# Altium integrated library Lattice FPGA XP.IntLib: 280 symbols (part 28 of 55)
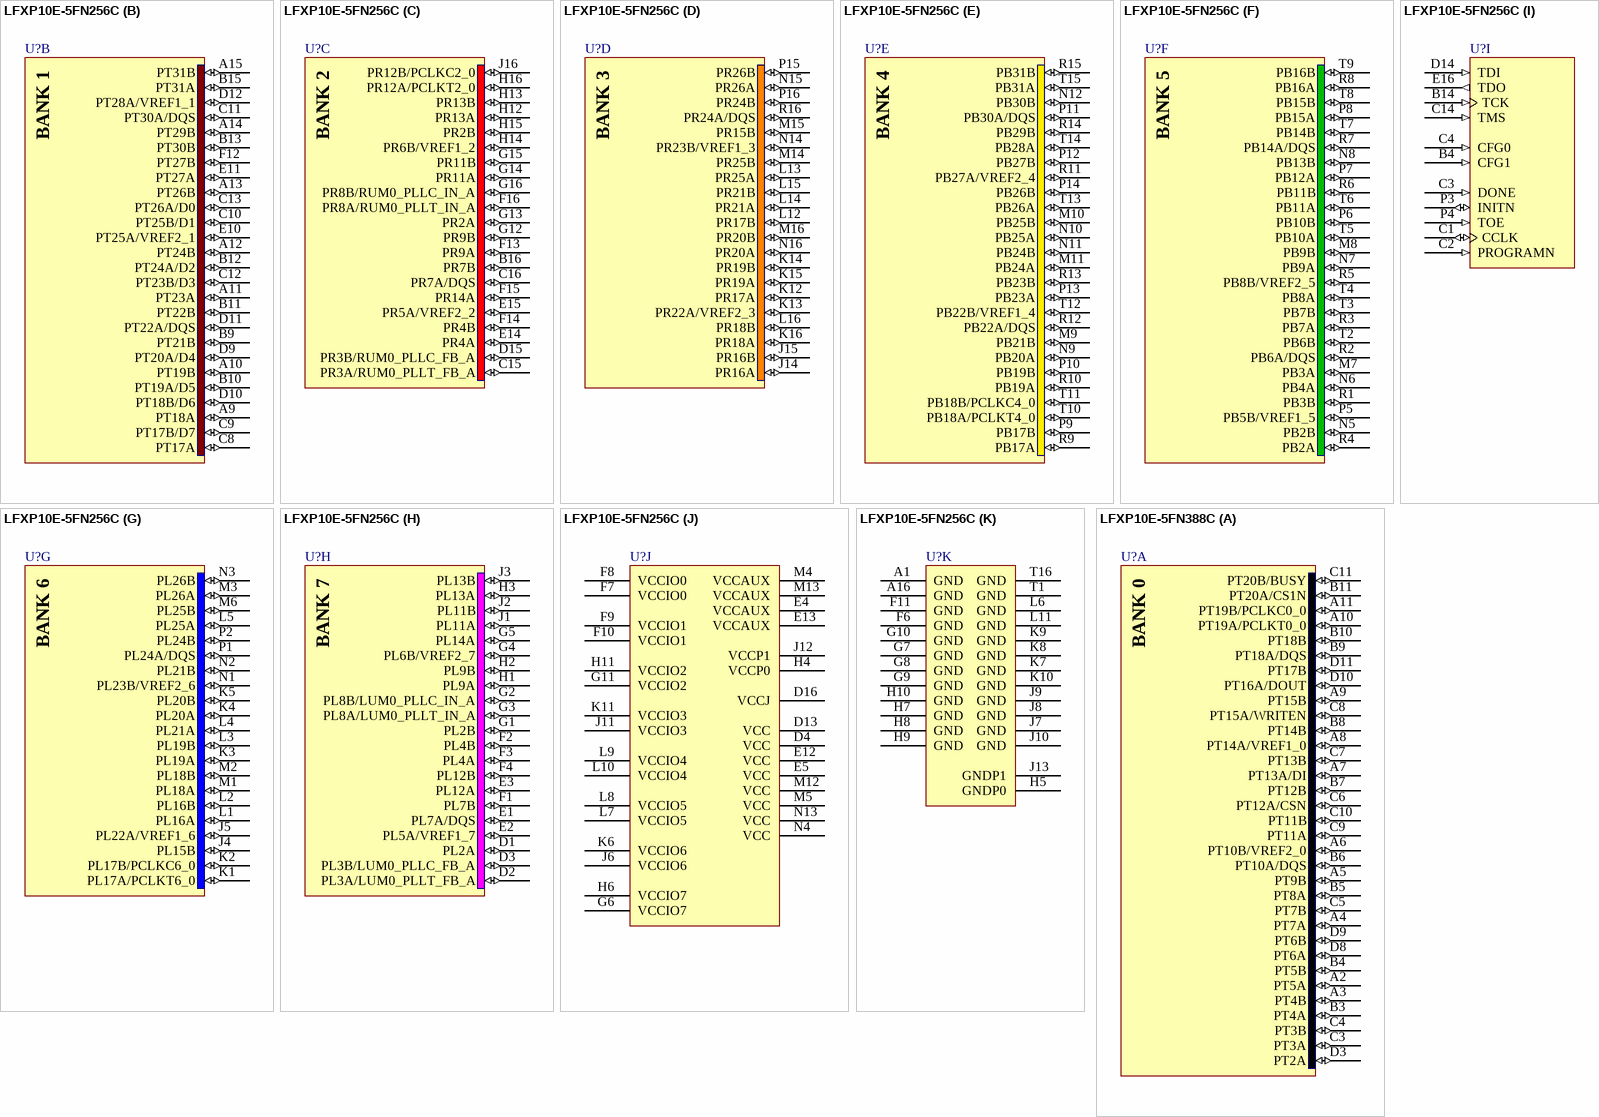
[diagram p266: symbols LFXP10E-5FN256C to LFXP10E-5FN388C]

## LFXP10E-5FN256C
designator U?
XP 1.2V FPGA, 188 I/Os, 10K LUTs, 256-Pin fpBGA, Speed Grade 5, Commerical Grade, Pb-Free; DatasheetVersion: ver05.1, Nov-2007; PackageVersion: ver01.8, Dec-2008; PackageReference: fpBGA256; PackageDescription: 256-Ball Fine Pitch Ball Grid Array (fpBGA256); Code_IPC: BGA100P16X16-256; ComponentLink1Description: Manufacturer URL; ComponentLink1URL: http://www.latticesemi.com/; ComponentLink2Description: Datasheet; ComponentLink2URL: http://www.latticesemi.com/lit/docs/datasheets/fpga/DS1001.pdf; ComponentLink3Description: Package Specification; ComponentLink3URL: http://www.latticesemi.com/lit/docs/package/pkg.pdf
footprint fpBGA256 (BGA, 256-Leads, Body 17x17mm, Pitch 1mm)
part A pins: A2 PT3B (io), A3 PT6A/DQS (io), A4 PT8B (io), A5 PT9B (io), A6 PT11B (io), A7 PT15A/PCLKT0_0 (io), A8 PT15B/PCLKC0_0 (io), B1 PT3A (io), B2 PT4A (io), B3 PT5B (io), B5 PT9A/DI (io), B6 PT8A/CSN (io), B7 PT14B (io), B8 PT16A/CS1N (io), C5 PT2A (io), C6 PT11A/WRITEN (io), C7 PT14A/DQS (io), D5 PT6B/VREF2_0 (io), D6 PT7A (io), D7 PT10A/VREF1_0 (io), D8 PT12A/DOUT (io), E6 PT7B (io), E7 PT10B (io), E8 PT13B (io), E9 PT16B/BUSY (io), F5 PT2B (io)
part B pins: A9 PT18A (io), A10 PT19B (io), A11 PT23A (io), A12 PT24B (io), A13 PT26B (io), A14 PT29B (io), A15 PT31B (io), B9 PT21B (io), B10 PT19A/D5 (io), B11 PT22B (io), B12 PT24A/D2 (io), B13 PT30B (io), B15 PT31A (io), C8 PT17A (io), C9 PT17B/D7 (io), C10 PT25B/D1 (io), C11 PT30A/DQS (io), C12 PT23B/D3 (io), C13 PT26A/D0 (io), D9 PT20A/D4 (io), D10 PT18B/D6 (io), D11 PT22A/DQS (io), D12 PT28A/VREF1_1 (io), E10 PT25A/VREF2_1 (io), E11 PT27A (io), F12 PT27B (io)
part C pins: B16 PR7B (io), C15 PR3A/RUM0_PLLT_FB_A (io), C16 PR7A/DQS (io), D15 PR3B/RUM0_PLLC_FB_A (io), E14 PR4A (io), E15 PR5A/VREF2_2 (io), F13 PR9A (io), F14 PR4B (io), F15 PR14A (io), F16 PR8A/RUM0_PLLT_IN_A (io), G12 PR9B (io), G13 PR2A (io), G14 PR11A (io), G15 PR11B (io), G16 PR8B/RUM0_PLLC_IN_A (io), H12 PR13A (io), H13 PR13B (io), H14 PR6B/VREF1_2 (io), H15 PR2B (io), H16 PR12A/PCLKT2_0 (io), J16 PR12B/PCLKC2_0 (io)
part D pins: J14 PR16A (io), J15 PR16B (io), K12 PR17A (io), K13 PR22A/VREF2_3 (io), K14 PR19B (io), K15 PR19A (io), K16 PR18A (io), L12 PR17B (io), L13 PR25A (io), L14 PR21A (io), L15 PR21B (io), L16 PR18B (io), M14 PR25B (io), M15 PR15B (io), M16 PR20B (io), N14 PR23B/VREF1_3 (io), N15 PR26A (io), N16 PR20A (io), P15 PR26B (io), P16 PR24B (io), R16 PR24A/DQS (io)
part E pins: M9 PB21B (io), M10 PB25B (io), M11 PB24A (io), N9 PB20A (io), N10 PB25A (io), N11 PB24B (io), N12 PB30B (io), P9 PB17B (io), P10 PB19B (io), P11 PB30A/DQS (io), P12 PB27B (io), P13 PB23A (io), P14 PB26B (io), R9 PB17A (io), R10 PB19A (io), R11 PB27A/VREF2_4 (io), R12 PB22A/DQS (io), R13 PB23B (io), R14 PB29B (io), R15 PB31B (io), T10 PB18A/PCLKT4_0 (io), T11 PB18B/PCLKC4_0 (io), T12 PB22B/VREF1_4 (io), T13 PB26A (io), T14 PB28A (io), T15 PB31A (io)
part F pins: M7 PB3A (io), M8 PB9B (io), N5 PB2B (io), N6 PB4A (io), N7 PB9A (io), N8 PB13B (io), P5 PB5B/VREF1_5 (io), P6 PB10B (io), P7 PB12A (io), P8 PB15A (io), R1 PB3B (io), R2 PB6A/DQS (io), R3 PB7A (io), R4 PB2A (io), R5 PB8B/VREF2_5 (io), R6 PB11B (io), R7 PB14A/DQS (io), R8 PB16A (io), T2 PB6B (io), T3 PB7B (io), T4 PB8A (io), T5 PB10A (io), T6 PB11A (io), T7 PB14B (io), T8 PB15B (io), T9 PB16B (io)
part G pins: J4 PL15B (io), J5 PL22A/VREF1_6 (io), K1 PL17A/PCLKT6_0 (io), K2 PL17B/PCLKC6_0 (io), K3 PL19A (io), K4 PL20A (io), K5 PL20B (io), L1 PL16A (io), L2 PL16B (io), L3 PL19B (io), L4 PL21A (io), L5 PL25A (io), M1 PL18A (io), M2 PL18B (io), M3 PL26A (io), M6 PL25B (io), N1 PL23B/VREF2_6 (io), N2 PL21B (io), N3 PL26B (io), P1 PL24A/DQS (io), P2 PL24B (io)
part H pins: D1 PL2A (io), D2 PL3A/LUM0_PLLT_FB_A (io), D3 PL3B/LUM0_PLLC_FB_A (io), E1 PL7A/DQS (io), E2 PL5A/VREF1_7 (io), E3 PL12A (io), F1 PL7B (io), F2 PL4B (io), F3 PL4A (io), F4 PL12B (io), G1 PL2B (io), G2 PL8B/LUM0_PLLC_IN_A (io), G3 PL8A/LUM0_PLLT_IN_A (io), G4 PL6B/VREF2_7 (io), G5 PL14A (io), H1 PL9A (io), H2 PL9B (io), H3 PL13A (io), J1 PL11A (io), J2 PL11B (io), J3 PL13B (io)
part I pins: B4 CFG1 (in), B14 TCK (in), C1 CCLK (io), C2 PROGRAMN (in), C3 DONE (in), C4 CFG0 (in), C14 TMS (in), D14 TDI (in), E16 TDO (out), P3 INITN (io), P4 TOE (in)
part J pins: D4 VCC (power), D13 VCC (power), D16 VCCJ (power), E4 VCCAUX (power), E5 VCC (power), E12 VCC (power), E13 VCCAUX (power), F7 VCCIO0 (power), F8 VCCIO0 (power), F9 VCCIO1 (power), F10 VCCIO1 (power), G6 VCCIO7 (power), G11 VCCIO2 (power), H4 VCCP0 (power), H6 VCCIO7 (power), H11 VCCIO2 (power), J6 VCCIO6 (power), J11 VCCIO3 (power), J12 VCCP1 (power), K6 VCCIO6 (power), K11 VCCIO3 (power), L7 VCCIO5 (power), L8 VCCIO5 (power), L9 VCCIO4 (power), L10 VCCIO4 (power), M4 VCCAUX (power), M5 VCC (power), M12 VCC (power), M13 VCCAUX (power), N4 VCC (power), N13 VCC (power)
part K pins: A1 GND (power), A16 GND (power), F6 GND (power), F11 GND (power), G7 GND (power), G8 GND (power), G9 GND (power), G10 GND (power), H5 GNDP0 (power), H7 GND (power), H8 GND (power), H9 GND (power), H10 GND (power), J7 GND (power), J8 GND (power), J9 GND (power), J10 GND (power), J13 GNDP1 (power), K7 GND (power), K8 GND (power), K9 GND (power), K10 GND (power), L6 GND (power), L11 GND (power), T1 GND (power), T16 GND (power)
part A text: BANK 0
part B text: BANK 1
part C text: BANK 2
part D text: BANK 3
part E text: BANK 4
part F text: BANK 5
part G text: BANK 6
part H text: BANK 7

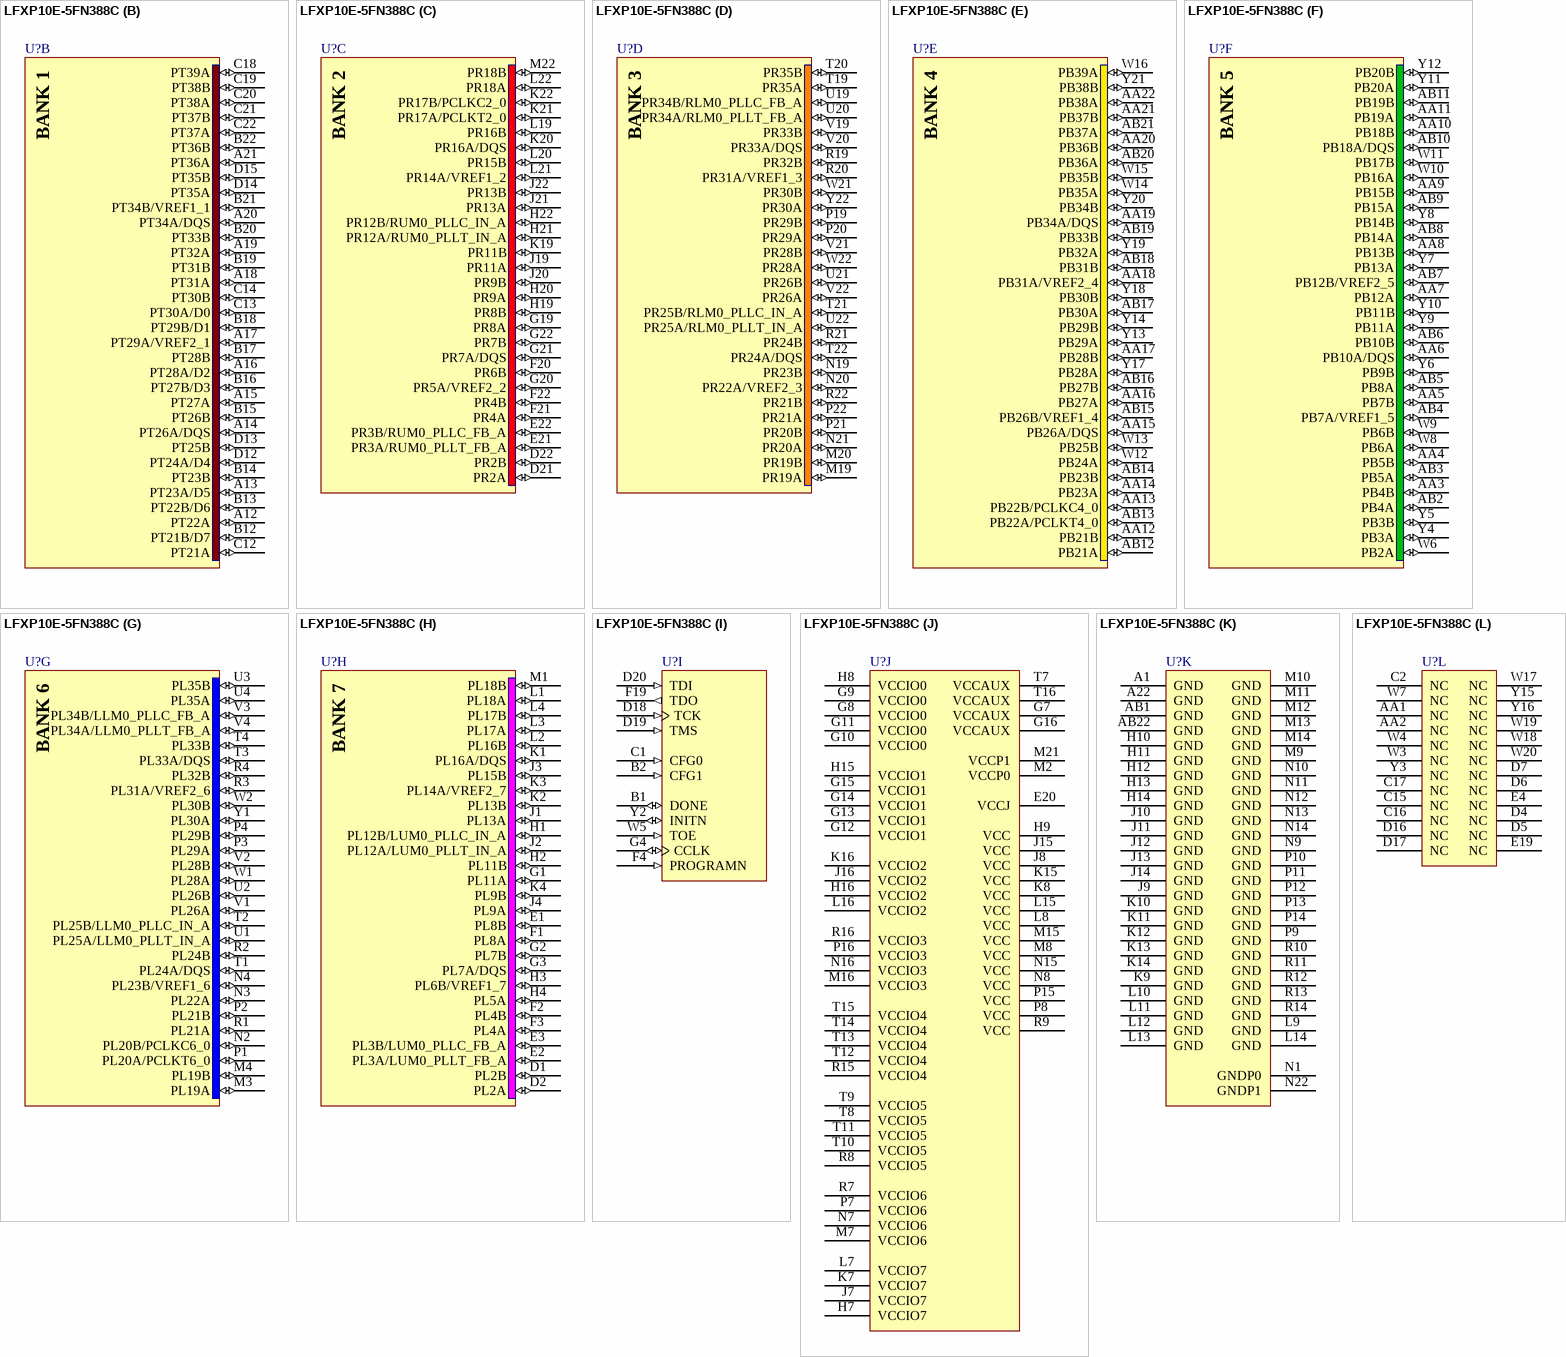
[diagram p111: symbol LFXP10E-5FN388C]

## LFXP10E-5FN388C
designator U?
XP 1.2V FPGA, 244 I/Os, 10K LUTs, 388-Pin fpBGA, Speed Grade 5, Commerical Grade, Pb-Free; DatasheetVersion: ver05.1, Nov-2007; PackageVersion: ver01.8, Dec-2008; PackageReference: fpBGA388; PackageDescription: 388-Ball Fine Pitch Ball Grid Array (fpBGA388); ComponentLink1Description: Manufacturer URL; ComponentLink1URL: http://www.latticesemi.com/; ComponentLink2Description: Datasheet; ComponentLink2URL: http://www.latticesemi.com/lit/docs/datasheets/fpga/DS1001.pdf; ComponentLink3Description: Package Specification; ComponentLink3URL: http://www.latticesemi.com/lit/docs/package/pkg.pdf
footprint fpBGA388 (BGA, 388-Leads, Body 23x23mm, Pitch 1mm)
part A pins: A2 PT5A (io), A3 PT4B (io), A4 PT7A (io), A5 PT9B (io), A6 PT10B/VREF2_0 (io), A7 PT13A/DI (io), A8 PT14A/VREF1_0 (io), A9 PT15B (io), A10 PT19A/PCLKT0_0 (io), A11 PT19B/PCLKC0_0 (io), B3 PT4A (io), B4 PT5B (io), B5 PT8A (io), B6 PT10A/DQS (io), B7 PT12B (io), B8 PT14B (io), B9 PT18A/DQS (io), B10 PT18B (io), B11 PT20A/CS1N (io), C3 PT3A (io), C4 PT3B (io), C5 PT7B (io), C6 PT12A/CSN (io), C7 PT13B (io), C8 PT15A/WRITEN (io), C9 PT11A (io), C10 PT11B (io), C11 PT20B/BUSY (io), D3 PT2A (io), D8 PT6A (io), D9 PT6B (io), D10 PT16A/DOUT (io), D11 PT17B (io)
part B pins: A12 PT22A (io), A13 PT23A/D5 (io), A14 PT26A/DQS (io), A15 PT27A (io), A16 PT28A/D2 (io), A17 PT29A/VREF2_1 (io), A18 PT31A (io), A19 PT32A (io), A20 PT34A/DQS (io), A21 PT36A (io), B12 PT21B/D7 (io), B13 PT22B/D6 (io), B14 PT23B (io), B15 PT26B (io), B16 PT27B/D3 (io), B17 PT28B (io), B18 PT29B/D1 (io), B19 PT31B (io), B20 PT33B (io), B21 PT34B/VREF1_1 (io), B22 PT36B (io), C12 PT21A (io), C13 PT30A/D0 (io), C14 PT30B (io), C18 PT39A (io), C19 PT38B (io), C20 PT38A (io), C21 PT37B (io), C22 PT37A (io), D12 PT24A/D4 (io), D13 PT25B (io), D14 PT35A (io), D15 PT35B (io)
part C pins: D21 PR2A (io), D22 PR2B (io), E21 PR3A/RUM0_PLLT_FB_A (io), E22 PR3B/RUM0_PLLC_FB_A (io), F20 PR6B (io), F21 PR4A (io), F22 PR4B (io), G19 PR8A (io), G20 PR5A/VREF2_2 (io), G21 PR7A/DQS (io), G22 PR7B (io), H19 PR8B (io), H20 PR9A (io), H21 PR12A/RUM0_PLLT_IN_A (io), H22 PR12B/RUM0_PLLC_IN_A (io), J19 PR11A (io), J20 PR9B (io), J21 PR13A (io), J22 PR13B (io), K19 PR11B (io), K20 PR16A/DQS (io), K21 PR17A/PCLKT2_0 (io), K22 PR17B/PCLKC2_0 (io), L19 PR16B (io), L20 PR15B (io), L21 PR14A/VREF1_2 (io), L22 PR18A (io), M22 PR18B (io)
part D pins: M19 PR19A (io), M20 PR19B (io), N19 PR23B (io), N20 PR22A/VREF2_3 (io), N21 PR20A (io), P19 PR29B (io), P20 PR29A (io), P21 PR20B (io), P22 PR21A (io), R19 PR32B (io), R20 PR31A/VREF1_3 (io), R21 PR24B (io), R22 PR21B (io), T19 PR35A (io), T20 PR35B (io), T21 PR25B/RLM0_PLLC_IN_A (io), T22 PR24A/DQS (io), U19 PR34B/RLM0_PLLC_FB_A (io), U20 PR34A/RLM0_PLLT_FB_A (io), U21 PR26B (io), U22 PR25A/RLM0_PLLT_IN_A (io), V19 PR33B (io), V20 PR33A/DQS (io), V21 PR28B (io), V22 PR26A (io), W21 PR30B (io), W22 PR28A (io), Y22 PR30A (io)
part E pins: AA12 PB21B (io), AA13 PB22B/PCLKC4_0 (io), AA14 PB23A (io), AA15 PB26A/DQS (io), AA16 PB27A (io), AA17 PB28B (io), AA18 PB31A/VREF2_4 (io), AA19 PB34A/DQS (io), AA20 PB36B (io), AA21 PB37B (io), AA22 PB38A (io), AB12 PB21A (io), AB13 PB22A/PCLKT4_0 (io), AB14 PB23B (io), AB15 PB26B/VREF1_4 (io), AB16 PB27B (io), AB17 PB30A (io), AB18 PB31B (io), AB19 PB33B (io), AB20 PB36A (io), AB21 PB37A (io), W12 PB24A (io), W13 PB25B (io), W14 PB35A (io), W15 PB35B (io), W16 PB39A (io), Y13 PB29A (io), Y14 PB29B (io), Y17 PB28A (io), Y18 PB30B (io), Y19 PB32A (io), Y20 PB34B (io), Y21 PB38B (io)
part F pins: AA3 PB4B (io), AA4 PB5B (io), AA5 PB7B (io), AA6 PB10A/DQS (io), AA7 PB12A (io), AA8 PB13B (io), AA9 PB15B (io), AA10 PB18B (io), AA11 PB19A (io), AB2 PB4A (io), AB3 PB5A (io), AB4 PB7A/VREF1_5 (io), AB5 PB8A (io), AB6 PB10B (io), AB7 PB12B/VREF2_5 (io), AB8 PB14A (io), AB9 PB15A (io), AB10 PB18A/DQS (io), AB11 PB19B (io), W6 PB2A (io), W8 PB6A (io), W9 PB6B (io), W10 PB16A (io), W11 PB17B (io), Y4 PB3A (io), Y5 PB3B (io), Y6 PB9B (io), Y7 PB13A (io), Y8 PB14B (io), Y9 PB11A (io), Y10 PB11B (io), Y11 PB20A (io), Y12 PB20B (io)
part G pins: M3 PL19A (io), M4 PL19B (io), N2 PL20B/PCLKC6_0 (io), N3 PL22A (io), N4 PL23B/VREF1_6 (io), P1 PL20A/PCLKT6_0 (io), P2 PL21B (io), P3 PL29A (io), P4 PL29B (io), R1 PL21A (io), R2 PL24B (io), R3 PL31A/VREF2_6 (io), R4 PL32B (io), T1 PL24A/DQS (io), T2 PL25B/LLM0_PLLC_IN_A (io), T3 PL33A/DQS (io), T4 PL33B (io), U1 PL25A/LLM0_PLLT_IN_A (io), U2 PL26B (io), U3 PL35B (io), U4 PL35A (io), V1 PL26A (io), V2 PL28B (io), V3 PL34B/LLM0_PLLC_FB_A (io), V4 PL34A/LLM0_PLLT_FB_A (io), W1 PL28A (io), W2 PL30B (io), Y1 PL30A (io)
part H pins: D1 PL2B (io), D2 PL2A (io), E1 PL8B (io), E2 PL3A/LUM0_PLLT_FB_A (io), E3 PL3B/LUM0_PLLC_FB_A (io), F1 PL8A (io), F2 PL4B (io), F3 PL4A (io), G1 PL11A (io), G2 PL7B (io), G3 PL7A/DQS (io), H1 PL12B/LUM0_PLLC_IN_A (io), H2 PL11B (io), H3 PL6B/VREF1_7 (io), H4 PL5A (io), J1 PL13A (io), J2 PL12A/LUM0_PLLT_IN_A (io), J3 PL15B (io), J4 PL9A (io), K1 PL16A/DQS (io), K2 PL13B (io), K3 PL14A/VREF2_7 (io), K4 PL9B (io), L1 PL18A (io), L2 PL16B (io), L3 PL17A (io), L4 PL17B (io), M1 PL18B (io)
part I pins: B1 DONE (io), B2 CFG1 (in), C1 CFG0 (in), D18 TCK (in), D19 TMS (in), D20 TDI (in), F4 PROGRAMN (in), F19 TDO (out), G4 CCLK (io), W5 TOE (in), Y2 INITN (io)
part J pins: E20 VCCJ (power), G7 VCCAUX (power), G8 VCCIO0 (power), G9 VCCIO0 (power), G10 VCCIO0 (power), G11 VCCIO0 (power), G12 VCCIO1 (power), G13 VCCIO1 (power), G14 VCCIO1 (power), G15 VCCIO1 (power), G16 VCCAUX (power), H7 VCCIO7 (power), H8 VCCIO0 (power), H9 VCC (power), H15 VCCIO1 (power), H16 VCCIO2 (power), J7 VCCIO7 (power), J8 VCC (power), J15 VCC (power), J16 VCCIO2 (power), K7 VCCIO7 (power), K8 VCC (power), K15 VCC (power), K16 VCCIO2 (power), L7 VCCIO7 (power), L8 VCC (power), L15 VCC (power), L16 VCCIO2 (power), M2 VCCP0 (power), M7 VCCIO6 (power), M8 VCC (power), M15 VCC (power), M16 VCCIO3 (power), M21 VCCP1 (power), N7 VCCIO6 (power), N8 VCC (power), N15 VCC (power), N16 VCCIO3 (power), P7 VCCIO6 (power), P8 VCC (power), P15 VCC (power), P16 VCCIO3 (power), R7 VCCIO6 (power), R8 VCCIO5 (power), R9 VCC (power), R15 VCCIO4 (power), R16 VCCIO3 (power), T7 VCCAUX (power), T8 VCCIO5 (power), T9 VCCIO5 (power), T10 VCCIO5 (power), T11 VCCIO5 (power), T12 VCCIO4 (power), T13 VCCIO4 (power), T14 VCCIO4 (power), T15 VCCIO4 (power), T16 VCCAUX (power)
part K pins: A1 GND (power), A22 GND (power), AB1 GND (power), AB22 GND (power), H10 GND (power), H11 GND (power), H12 GND (power), H13 GND (power), H14 GND (power), J9 GND (power), J10 GND (power), J11 GND (power), J12 GND (power), J13 GND (power), J14 GND (power), K9 GND (power), K10 GND (power), K11 GND (power), K12 GND (power), K13 GND (power), K14 GND (power), L9 GND (power), L10 GND (power), L11 GND (power), L12 GND (power), L13 GND (power), L14 GND (power), M9 GND (power), M10 GND (power), M11 GND (power), M12 GND (power), M13 GND (power), M14 GND (power), N1 GNDP0 (power), N9 GND (power), N10 GND (power), N11 GND (power), N12 GND (power), N13 GND (power), N14 GND (power), N22 GNDP1 (power), P9 GND (power), P10 GND (power), P11 GND (power), P12 GND (power), P13 GND (power), P14 GND (power), R10 GND (power), R11 GND (power), R12 GND (power), R13 GND (power), R14 GND (power)
part L pins: AA1 NC, AA2 NC, C2 NC, C15 NC, C16 NC, C17 NC, D4 NC, D5 NC, D6 NC, D7 NC, D16 NC, D17 NC, E4 NC, E19 NC, W3 NC, W4 NC, W7 NC, W17 NC, W18 NC, W19 NC, W20 NC, Y3 NC, Y15 NC, Y16 NC
part A text: BANK 0
part B text: BANK 1
part C text: BANK 2
part D text: BANK 3
part E text: BANK 4
part F text: BANK 5
part G text: BANK 6
part H text: BANK 7

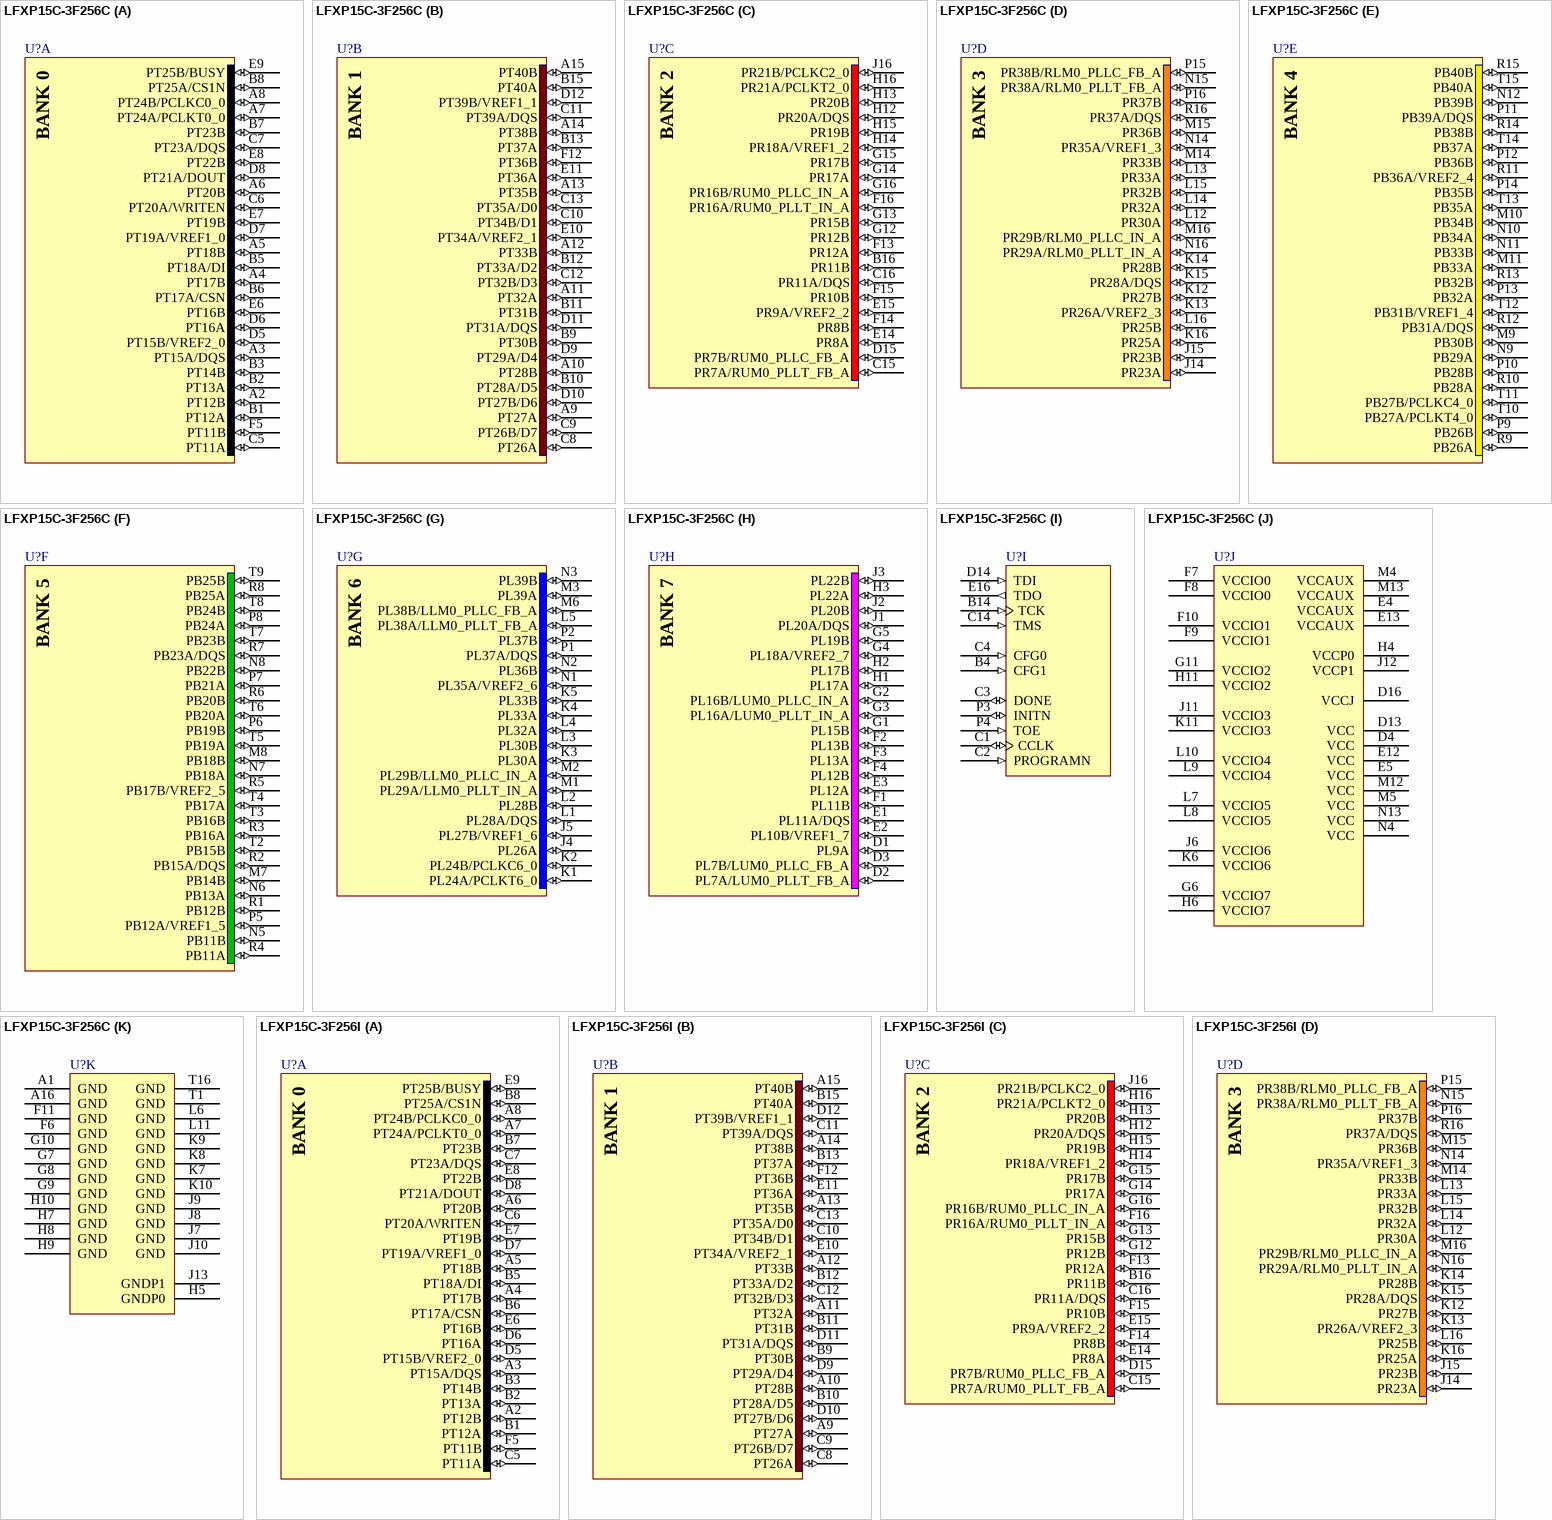
[diagram p112: symbols LFXP15C-3F256C to LFXP15C-3F256I]

## LFXP15C-3F256C
designator U?
XP 1.8/2.5/3.3V FPGA, 188 I/Os, 15K LUTs, 256-Pin fpBGA, Speed Grade 3, Commerical Grade; DatasheetVersion: ver05.1, Nov-2007; PackageVersion: ver01.8, Dec-2008; PackageReference: fpBGA256; PackageDescription: 256-Ball Fine Pitch Ball Grid Array (fpBGA256); Code_IPC: BGA100P16X16-256; ComponentLink1Description: Manufacturer URL; ComponentLink1URL: http://www.latticesemi.com/; ComponentLink2Description: Datasheet; ComponentLink2URL: http://www.latticesemi.com/lit/docs/datasheets/fpga/DS1001.pdf; ComponentLink3Description: Package Specification; ComponentLink3URL: http://www.latticesemi.com/lit/docs/package/pkg.pdf
footprint fpBGA256 (BGA, 256-Leads, Body 17x17mm, Pitch 1mm)
part A pins: A2 PT12B (io), A3 PT15A/DQS (io), A4 PT17B (io), A5 PT18B (io), A6 PT20B (io), A7 PT24A/PCLKT0_0 (io), A8 PT24B/PCLKC0_0 (io), B1 PT12A (io), B2 PT13A (io), B3 PT14B (io), B5 PT18A/DI (io), B6 PT17A/CSN (io), B7 PT23B (io), B8 PT25A/CS1N (io), C5 PT11A (io), C6 PT20A/WRITEN (io), C7 PT23A/DQS (io), D5 PT15B/VREF2_0 (io), D6 PT16A (io), D7 PT19A/VREF1_0 (io), D8 PT21A/DOUT (io), E6 PT16B (io), E7 PT19B (io), E8 PT22B (io), E9 PT25B/BUSY (io), F5 PT11B (io)
part B pins: A9 PT27A (io), A10 PT28B (io), A11 PT32A (io), A12 PT33B (io), A13 PT35B (io), A14 PT38B (io), A15 PT40B (io), B9 PT30B (io), B10 PT28A/D5 (io), B11 PT31B (io), B12 PT33A/D2 (io), B13 PT37A (io), B15 PT40A (io), C8 PT26A (io), C9 PT26B/D7 (io), C10 PT34B/D1 (io), C11 PT39A/DQS (io), C12 PT32B/D3 (io), C13 PT35A/D0 (io), D9 PT29A/D4 (io), D10 PT27B/D6 (io), D11 PT31A/DQS (io), D12 PT39B/VREF1_1 (io), E10 PT34A/VREF2_1 (io), E11 PT36A (io), F12 PT36B (io)
part C pins: B16 PR11B (io), C15 PR7A/RUM0_PLLT_FB_A (io), C16 PR11A/DQS (io), D15 PR7B/RUM0_PLLC_FB_A (io), E14 PR8A (io), E15 PR9A/VREF2_2 (io), F13 PR12A (io), F14 PR8B (io), F15 PR10B (io), F16 PR16A/RUM0_PLLT_IN_A (io), G12 PR12B (io), G13 PR15B (io), G14 PR17A (io), G15 PR17B (io), G16 PR16B/RUM0_PLLC_IN_A (io), H12 PR20A/DQS (io), H13 PR20B (io), H14 PR18A/VREF1_2 (io), H15 PR19B (io), H16 PR21A/PCLKT2_0 (io), J16 PR21B/PCLKC2_0 (io)
part D pins: J14 PR23A (io), J15 PR23B (io), K12 PR27B (io), K13 PR26A/VREF2_3 (io), K14 PR28B (io), K15 PR28A/DQS (io), K16 PR25A (io), L12 PR30A (io), L13 PR33A (io), L14 PR32A (io), L15 PR32B (io), L16 PR25B (io), M14 PR33B (io), M15 PR36B (io), M16 PR29B/RLM0_PLLC_IN_A (io), N14 PR35A/VREF1_3 (io), N15 PR38A/RLM0_PLLT_FB_A (io), N16 PR29A/RLM0_PLLT_IN_A (io), P15 PR38B/RLM0_PLLC_FB_A (io), P16 PR37B (io), R16 PR37A/DQS (io)
part E pins: M9 PB30B (io), M10 PB34B (io), M11 PB33A (io), N9 PB29A (io), N10 PB34A (io), N11 PB33B (io), N12 PB39B (io), P9 PB26B (io), P10 PB28B (io), P11 PB39A/DQS (io), P12 PB36B (io), P13 PB32A (io), P14 PB35B (io), R9 PB26A (io), R10 PB28A (io), R11 PB36A/VREF2_4 (io), R12 PB31A/DQS (io), R13 PB32B (io), R14 PB38B (io), R15 PB40B (io), T10 PB27A/PCLKT4_0 (io), T11 PB27B/PCLKC4_0 (io), T12 PB31B/VREF1_4 (io), T13 PB35A (io), T14 PB37A (io), T15 PB40A (io)
part F pins: M7 PB14B (io), M8 PB18B (io), N5 PB11B (io), N6 PB13A (io), N7 PB18A (io), N8 PB22B (io), P5 PB12A/VREF1_5 (io), P6 PB19B (io), P7 PB21A (io), P8 PB24A (io), R1 PB12B (io), R2 PB15A/DQS (io), R3 PB16A (io), R4 PB11A (io), R5 PB17B/VREF2_5 (io), R6 PB20B (io), R7 PB23A/DQS (io), R8 PB25A (io), T2 PB15B (io), T3 PB16B (io), T4 PB17A (io), T5 PB19A (io), T6 PB20A (io), T7 PB23B (io), T8 PB24B (io), T9 PB25B (io)
part G pins: J4 PL26A (io), J5 PL27B/VREF1_6 (io), K1 PL24A/PCLKT6_0 (io), K2 PL24B/PCLKC6_0 (io), K3 PL30A (io), K4 PL33A (io), K5 PL33B (io), L1 PL28A/DQS (io), L2 PL28B (io), L3 PL30B (io), L4 PL32A (io), L5 PL38A/LLM0_PLLT_FB_A (io), M1 PL29A/LLM0_PLLT_IN_A (io), M2 PL29B/LLM0_PLLC_IN_A (io), M3 PL39A (io), M6 PL38B/LLM0_PLLC_FB_A (io), N1 PL35A/VREF2_6 (io), N2 PL36B (io), N3 PL39B (io), P1 PL37A/DQS (io), P2 PL37B (io)
part H pins: D1 PL9A (io), D2 PL7A/LUM0_PLLT_FB_A (io), D3 PL7B/LUM0_PLLC_FB_A (io), E1 PL11A/DQS (io), E2 PL10B/VREF1_7 (io), E3 PL12A (io), F1 PL11B (io), F2 PL13B (io), F3 PL13A (io), F4 PL12B (io), G1 PL15B (io), G2 PL16B/LUM0_PLLC_IN_A (io), G3 PL16A/LUM0_PLLT_IN_A (io), G4 PL18A/VREF2_7 (io), G5 PL19B (io), H1 PL17A (io), H2 PL17B (io), H3 PL22A (io), J1 PL20A/DQS (io), J2 PL20B (io), J3 PL22B (io)
part I pins: B4 CFG1 (in), B14 TCK (in), C1 CCLK (io), C2 PROGRAMN (in), C3 DONE (io), C4 CFG0 (in), C14 TMS (in), D14 TDI (in), E16 TDO (out), P3 INITN (io), P4 TOE (in)
part J pins: D4 VCC (power), D13 VCC (power), D16 VCCJ (power), E4 VCCAUX (power), E5 VCC (power), E12 VCC (power), E13 VCCAUX (power), F7 VCCIO0 (power), F8 VCCIO0 (power), F9 VCCIO1 (power), F10 VCCIO1 (power), G6 VCCIO7 (power), G11 VCCIO2 (power), H4 VCCP0 (power), H6 VCCIO7 (power), H11 VCCIO2 (power), J6 VCCIO6 (power), J11 VCCIO3 (power), J12 VCCP1 (power), K6 VCCIO6 (power), K11 VCCIO3 (power), L7 VCCIO5 (power), L8 VCCIO5 (power), L9 VCCIO4 (power), L10 VCCIO4 (power), M4 VCCAUX (power), M5 VCC (power), M12 VCC (power), M13 VCCAUX (power), N4 VCC (power), N13 VCC (power)
part K pins: A1 GND (power), A16 GND (power), F6 GND (power), F11 GND (power), G7 GND (power), G8 GND (power), G9 GND (power), G10 GND (power), H5 GNDP0 (power), H7 GND (power), H8 GND (power), H9 GND (power), H10 GND (power), J7 GND (power), J8 GND (power), J9 GND (power), J10 GND (power), J13 GNDP1 (power), K7 GND (power), K8 GND (power), K9 GND (power), K10 GND (power), L6 GND (power), L11 GND (power), T1 GND (power), T16 GND (power)
part A text: BANK 0
part B text: BANK 1
part C text: BANK 2
part D text: BANK 3
part E text: BANK 4
part F text: BANK 5
part G text: BANK 6
part H text: BANK 7

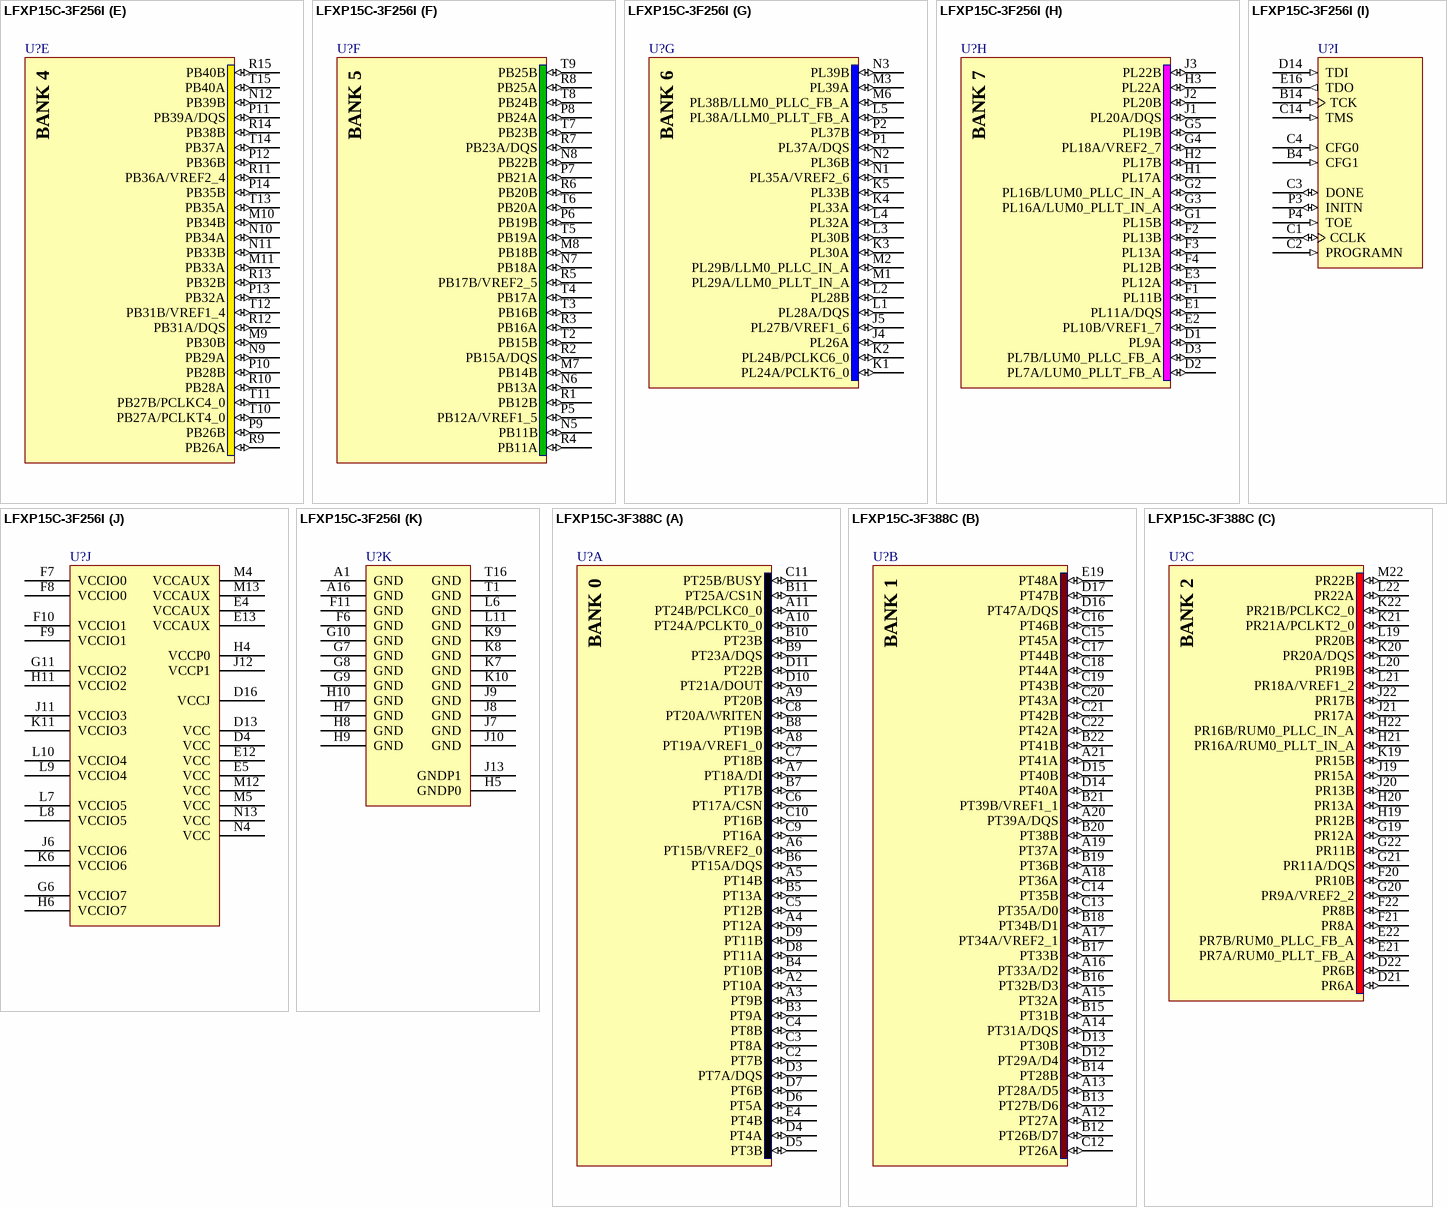
[diagram p113: symbols LFXP15C-3F256I to LFXP15C-3F388C]

## LFXP15C-3F256I
designator U?
XP 1.8/2.5/3.3V FPGA, 188 I/Os, 15K LUTs, 256-Pin fpBGA, Speed Grade 3, Industrial Grade; DatasheetVersion: ver05.1, Nov-2007; PackageVersion: ver01.8, Dec-2008; PackageReference: fpBGA256; PackageDescription: 256-Ball Fine Pitch Ball Grid Array (fpBGA256); Code_IPC: BGA100P16X16-256; ComponentLink1Description: Manufacturer URL; ComponentLink1URL: http://www.latticesemi.com/; ComponentLink2Description: Datasheet; ComponentLink2URL: http://www.latticesemi.com/lit/docs/datasheets/fpga/DS1001.pdf; ComponentLink3Description: Package Specification; ComponentLink3URL: http://www.latticesemi.com/lit/docs/package/pkg.pdf
footprint fpBGA256 (BGA, 256-Leads, Body 17x17mm, Pitch 1mm)
part A pins: A2 PT12B (io), A3 PT15A/DQS (io), A4 PT17B (io), A5 PT18B (io), A6 PT20B (io), A7 PT24A/PCLKT0_0 (io), A8 PT24B/PCLKC0_0 (io), B1 PT12A (io), B2 PT13A (io), B3 PT14B (io), B5 PT18A/DI (io), B6 PT17A/CSN (io), B7 PT23B (io), B8 PT25A/CS1N (io), C5 PT11A (io), C6 PT20A/WRITEN (io), C7 PT23A/DQS (io), D5 PT15B/VREF2_0 (io), D6 PT16A (io), D7 PT19A/VREF1_0 (io), D8 PT21A/DOUT (io), E6 PT16B (io), E7 PT19B (io), E8 PT22B (io), E9 PT25B/BUSY (io), F5 PT11B (io)
part B pins: A9 PT27A (io), A10 PT28B (io), A11 PT32A (io), A12 PT33B (io), A13 PT35B (io), A14 PT38B (io), A15 PT40B (io), B9 PT30B (io), B10 PT28A/D5 (io), B11 PT31B (io), B12 PT33A/D2 (io), B13 PT37A (io), B15 PT40A (io), C8 PT26A (io), C9 PT26B/D7 (io), C10 PT34B/D1 (io), C11 PT39A/DQS (io), C12 PT32B/D3 (io), C13 PT35A/D0 (io), D9 PT29A/D4 (io), D10 PT27B/D6 (io), D11 PT31A/DQS (io), D12 PT39B/VREF1_1 (io), E10 PT34A/VREF2_1 (io), E11 PT36A (io), F12 PT36B (io)
part C pins: B16 PR11B (io), C15 PR7A/RUM0_PLLT_FB_A (io), C16 PR11A/DQS (io), D15 PR7B/RUM0_PLLC_FB_A (io), E14 PR8A (io), E15 PR9A/VREF2_2 (io), F13 PR12A (io), F14 PR8B (io), F15 PR10B (io), F16 PR16A/RUM0_PLLT_IN_A (io), G12 PR12B (io), G13 PR15B (io), G14 PR17A (io), G15 PR17B (io), G16 PR16B/RUM0_PLLC_IN_A (io), H12 PR20A/DQS (io), H13 PR20B (io), H14 PR18A/VREF1_2 (io), H15 PR19B (io), H16 PR21A/PCLKT2_0 (io), J16 PR21B/PCLKC2_0 (io)
part D pins: J14 PR23A (io), J15 PR23B (io), K12 PR27B (io), K13 PR26A/VREF2_3 (io), K14 PR28B (io), K15 PR28A/DQS (io), K16 PR25A (io), L12 PR30A (io), L13 PR33A (io), L14 PR32A (io), L15 PR32B (io), L16 PR25B (io), M14 PR33B (io), M15 PR36B (io), M16 PR29B/RLM0_PLLC_IN_A (io), N14 PR35A/VREF1_3 (io), N15 PR38A/RLM0_PLLT_FB_A (io), N16 PR29A/RLM0_PLLT_IN_A (io), P15 PR38B/RLM0_PLLC_FB_A (io), P16 PR37B (io), R16 PR37A/DQS (io)
part E pins: M9 PB30B (io), M10 PB34B (io), M11 PB33A (io), N9 PB29A (io), N10 PB34A (io), N11 PB33B (io), N12 PB39B (io), P9 PB26B (io), P10 PB28B (io), P11 PB39A/DQS (io), P12 PB36B (io), P13 PB32A (io), P14 PB35B (io), R9 PB26A (io), R10 PB28A (io), R11 PB36A/VREF2_4 (io), R12 PB31A/DQS (io), R13 PB32B (io), R14 PB38B (io), R15 PB40B (io), T10 PB27A/PCLKT4_0 (io), T11 PB27B/PCLKC4_0 (io), T12 PB31B/VREF1_4 (io), T13 PB35A (io), T14 PB37A (io), T15 PB40A (io)
part F pins: M7 PB14B (io), M8 PB18B (io), N5 PB11B (io), N6 PB13A (io), N7 PB18A (io), N8 PB22B (io), P5 PB12A/VREF1_5 (io), P6 PB19B (io), P7 PB21A (io), P8 PB24A (io), R1 PB12B (io), R2 PB15A/DQS (io), R3 PB16A (io), R4 PB11A (io), R5 PB17B/VREF2_5 (io), R6 PB20B (io), R7 PB23A/DQS (io), R8 PB25A (io), T2 PB15B (io), T3 PB16B (io), T4 PB17A (io), T5 PB19A (io), T6 PB20A (io), T7 PB23B (io), T8 PB24B (io), T9 PB25B (io)
part G pins: J4 PL26A (io), J5 PL27B/VREF1_6 (io), K1 PL24A/PCLKT6_0 (io), K2 PL24B/PCLKC6_0 (io), K3 PL30A (io), K4 PL33A (io), K5 PL33B (io), L1 PL28A/DQS (io), L2 PL28B (io), L3 PL30B (io), L4 PL32A (io), L5 PL38A/LLM0_PLLT_FB_A (io), M1 PL29A/LLM0_PLLT_IN_A (io), M2 PL29B/LLM0_PLLC_IN_A (io), M3 PL39A (io), M6 PL38B/LLM0_PLLC_FB_A (io), N1 PL35A/VREF2_6 (io), N2 PL36B (io), N3 PL39B (io), P1 PL37A/DQS (io), P2 PL37B (io)
part H pins: D1 PL9A (io), D2 PL7A/LUM0_PLLT_FB_A (io), D3 PL7B/LUM0_PLLC_FB_A (io), E1 PL11A/DQS (io), E2 PL10B/VREF1_7 (io), E3 PL12A (io), F1 PL11B (io), F2 PL13B (io), F3 PL13A (io), F4 PL12B (io), G1 PL15B (io), G2 PL16B/LUM0_PLLC_IN_A (io), G3 PL16A/LUM0_PLLT_IN_A (io), G4 PL18A/VREF2_7 (io), G5 PL19B (io), H1 PL17A (io), H2 PL17B (io), H3 PL22A (io), J1 PL20A/DQS (io), J2 PL20B (io), J3 PL22B (io)
part I pins: B4 CFG1 (in), B14 TCK (in), C1 CCLK (io), C2 PROGRAMN (in), C3 DONE (io), C4 CFG0 (in), C14 TMS (in), D14 TDI (in), E16 TDO (out), P3 INITN (io), P4 TOE (in)
part J pins: D4 VCC (power), D13 VCC (power), D16 VCCJ (power), E4 VCCAUX (power), E5 VCC (power), E12 VCC (power), E13 VCCAUX (power), F7 VCCIO0 (power), F8 VCCIO0 (power), F9 VCCIO1 (power), F10 VCCIO1 (power), G6 VCCIO7 (power), G11 VCCIO2 (power), H4 VCCP0 (power), H6 VCCIO7 (power), H11 VCCIO2 (power), J6 VCCIO6 (power), J11 VCCIO3 (power), J12 VCCP1 (power), K6 VCCIO6 (power), K11 VCCIO3 (power), L7 VCCIO5 (power), L8 VCCIO5 (power), L9 VCCIO4 (power), L10 VCCIO4 (power), M4 VCCAUX (power), M5 VCC (power), M12 VCC (power), M13 VCCAUX (power), N4 VCC (power), N13 VCC (power)
part K pins: A1 GND (power), A16 GND (power), F6 GND (power), F11 GND (power), G7 GND (power), G8 GND (power), G9 GND (power), G10 GND (power), H5 GNDP0 (power), H7 GND (power), H8 GND (power), H9 GND (power), H10 GND (power), J7 GND (power), J8 GND (power), J9 GND (power), J10 GND (power), J13 GNDP1 (power), K7 GND (power), K8 GND (power), K9 GND (power), K10 GND (power), L6 GND (power), L11 GND (power), T1 GND (power), T16 GND (power)
part A text: BANK 0
part B text: BANK 1
part C text: BANK 2
part D text: BANK 3
part E text: BANK 4
part F text: BANK 5
part G text: BANK 6
part H text: BANK 7

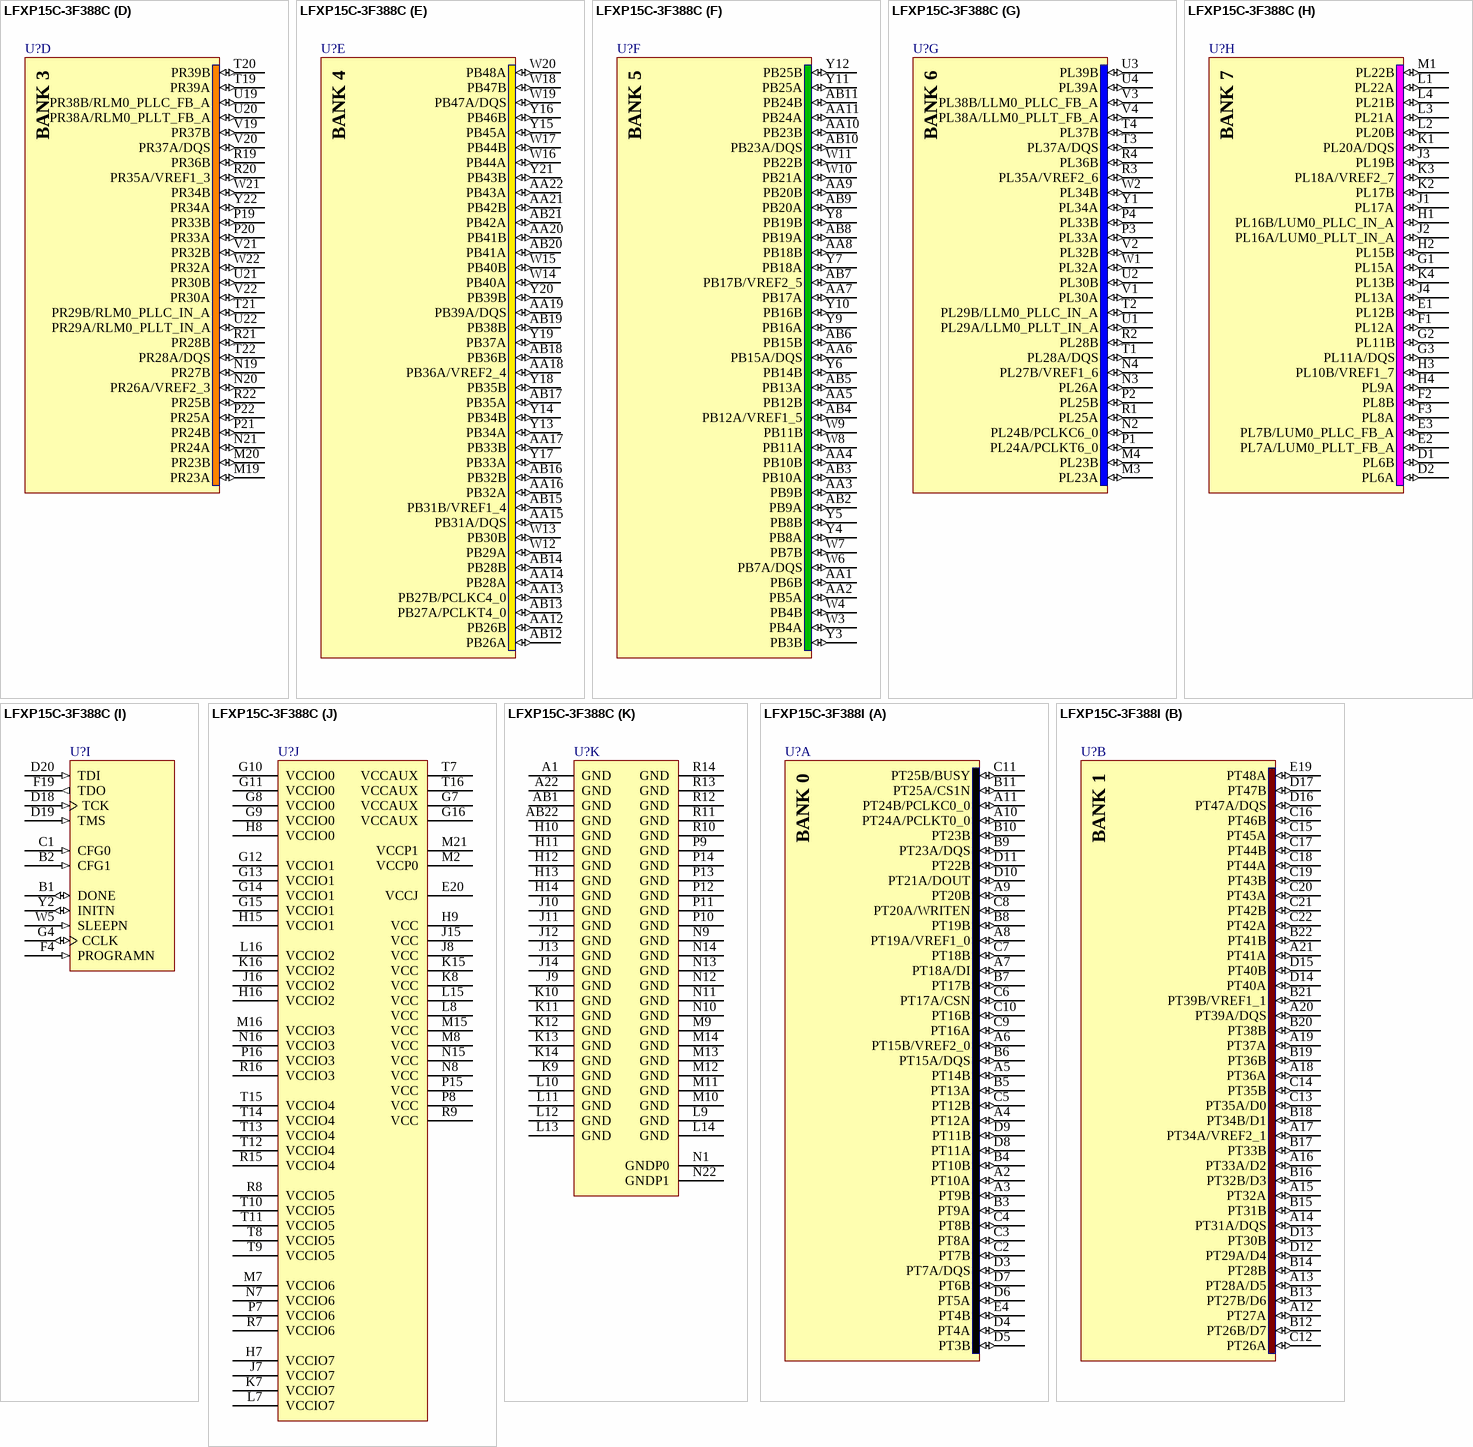
[diagram p114: symbols LFXP15C-3F388C to LFXP15C-3F388I]

## LFXP15C-3F388C
designator U?
XP 1.8/2.5/3.3V FPGA, 268 I/Os, 15K LUTs, 388-Pin fpBGA, Speed Grade 3, Commerical Grade; DatasheetVersion: ver05.1, Nov-2007; PackageVersion: ver01.8, Dec-2008; PackageReference: fpBGA388; PackageDescription: 388-Ball Fine Pitch Ball Grid Array (fpBGA388); ComponentLink1Description: Manufacturer URL; ComponentLink1URL: http://www.latticesemi.com/; ComponentLink2Description: Datasheet; ComponentLink2URL: http://www.latticesemi.com/lit/docs/datasheets/fpga/DS1001.pdf; ComponentLink3Description: Package Specification; ComponentLink3URL: http://www.latticesemi.com/lit/docs/package/pkg.pdf
footprint fpBGA388 (BGA, 388-Leads, Body 23x23mm, Pitch 1mm)
part A pins: A2 PT10A (io), A3 PT9B (io), A4 PT12A (io), A5 PT14B (io), A6 PT15B/VREF2_0 (io), A7 PT18A/DI (io), A8 PT19A/VREF1_0 (io), A9 PT20B (io), A10 PT24A/PCLKT0_0 (io), A11 PT24B/PCLKC0_0 (io), B3 PT9A (io), B4 PT10B (io), B5 PT13A (io), B6 PT15A/DQS (io), B7 PT17B (io), B8 PT19B (io), B9 PT23A/DQS (io), B10 PT23B (io), B11 PT25A/CS1N (io), C2 PT7B (io), C3 PT8A (io), C4 PT8B (io), C5 PT12B (io), C6 PT17A/CSN (io), C7 PT18B (io), C8 PT20A/WRITEN (io), C9 PT16A (io), C10 PT16B (io), C11 PT25B/BUSY (io), D3 PT7A/DQS (io), D4 PT4A (io), D5 PT3B (io), D6 PT5A (io), D7 PT6B (io), D8 PT11A (io), D9 PT11B (io), D10 PT21A/DOUT (io), D11 PT22B (io), E4 PT4B (io)
part B pins: A12 PT27A (io), A13 PT28A/D5 (io), A14 PT31A/DQS (io), A15 PT32A (io), A16 PT33A/D2 (io), A17 PT34A/VREF2_1 (io), A18 PT36A (io), A19 PT37A (io), A20 PT39A/DQS (io), A21 PT41A (io), B12 PT26B/D7 (io), B13 PT27B/D6 (io), B14 PT28B (io), B15 PT31B (io), B16 PT32B/D3 (io), B17 PT33B (io), B18 PT34B/D1 (io), B19 PT36B (io), B20 PT38B (io), B21 PT39B/VREF1_1 (io), B22 PT41B (io), C12 PT26A (io), C13 PT35A/D0 (io), C14 PT35B (io), C15 PT45A (io), C16 PT46B (io), C17 PT44B (io), C18 PT44A (io), C19 PT43B (io), C20 PT43A (io), C21 PT42B (io), C22 PT42A (io), D12 PT29A/D4 (io), D13 PT30B (io), D14 PT40A (io), D15 PT40B (io), D16 PT47A/DQS (io), D17 PT47B (io), E19 PT48A (io)
part C pins: D21 PR6A (io), D22 PR6B (io), E21 PR7A/RUM0_PLLT_FB_A (io), E22 PR7B/RUM0_PLLC_FB_A (io), F20 PR10B (io), F21 PR8A (io), F22 PR8B (io), G19 PR12A (io), G20 PR9A/VREF2_2 (io), G21 PR11A/DQS (io), G22 PR11B (io), H19 PR12B (io), H20 PR13A (io), H21 PR16A/RUM0_PLLT_IN_A (io), H22 PR16B/RUM0_PLLC_IN_A (io), J19 PR15A (io), J20 PR13B (io), J21 PR17A (io), J22 PR17B (io), K19 PR15B (io), K20 PR20A/DQS (io), K21 PR21A/PCLKT2_0 (io), K22 PR21B/PCLKC2_0 (io), L19 PR20B (io), L20 PR19B (io), L21 PR18A/VREF1_2 (io), L22 PR22A (io), M22 PR22B (io)
part D pins: M19 PR23A (io), M20 PR23B (io), N19 PR27B (io), N20 PR26A/VREF2_3 (io), N21 PR24A (io), P19 PR33B (io), P20 PR33A (io), P21 PR24B (io), P22 PR25A (io), R19 PR36B (io), R20 PR35A/VREF1_3 (io), R21 PR28B (io), R22 PR25B (io), T19 PR39A (io), T20 PR39B (io), T21 PR29B/RLM0_PLLC_IN_A (io), T22 PR28A/DQS (io), U19 PR38B/RLM0_PLLC_FB_A (io), U20 PR38A/RLM0_PLLT_FB_A (io), U21 PR30B (io), U22 PR29A/RLM0_PLLT_IN_A (io), V19 PR37B (io), V20 PR37A/DQS (io), V21 PR32B (io), V22 PR30A (io), W21 PR34B (io), W22 PR32A (io), Y22 PR34A (io)
part E pins: AA12 PB26B (io), AA13 PB27B/PCLKC4_0 (io), AA14 PB28A (io), AA15 PB31A/DQS (io), AA16 PB32A (io), AA17 PB33B (io), AA18 PB36A/VREF2_4 (io), AA19 PB39A/DQS (io), AA20 PB41B (io), AA21 PB42B (io), AA22 PB43A (io), AB12 PB26A (io), AB13 PB27A/PCLKT4_0 (io), AB14 PB28B (io), AB15 PB31B/VREF1_4 (io), AB16 PB32B (io), AB17 PB35A (io), AB18 PB36B (io), AB19 PB38B (io), AB20 PB41A (io), AB21 PB42A (io), W12 PB29A (io), W13 PB30B (io), W14 PB40A (io), W15 PB40B (io), W16 PB44A (io), W17 PB44B (io), W18 PB47B (io), W19 PB47A/DQS (io), W20 PB48A (io), Y13 PB34A (io), Y14 PB34B (io), Y15 PB45A (io), Y16 PB46B (io), Y17 PB33A (io), Y18 PB35B (io), Y19 PB37A (io), Y20 PB39B (io), Y21 PB43B (io)
part F pins: AA1 PB6B (io), AA2 PB5A (io), AA3 PB9B (io), AA4 PB10B (io), AA5 PB12B (io), AA6 PB15A/DQS (io), AA7 PB17A (io), AA8 PB18B (io), AA9 PB20B (io), AA10 PB23B (io), AA11 PB24A (io), AB2 PB9A (io), AB3 PB10A (io), AB4 PB12A/VREF1_5 (io), AB5 PB13A (io), AB6 PB15B (io), AB7 PB17B/VREF2_5 (io), AB8 PB19A (io), AB9 PB20A (io), AB10 PB23A/DQS (io), AB11 PB24B (io), W3 PB4A (io), W4 PB4B (io), W6 PB7A/DQS (io), W7 PB7B (io), W8 PB11A (io), W9 PB11B (io), W10 PB21A (io), W11 PB22B (io), Y3 PB3B (io), Y4 PB8A (io), Y5 PB8B (io), Y6 PB14B (io), Y7 PB18A (io), Y8 PB19B (io), Y9 PB16A (io), Y10 PB16B (io), Y11 PB25A (io), Y12 PB25B (io)
part G pins: M3 PL23A (io), M4 PL23B (io), N2 PL24B/PCLKC6_0 (io), N3 PL26A (io), N4 PL27B/VREF1_6 (io), P1 PL24A/PCLKT6_0 (io), P2 PL25B (io), P3 PL33A (io), P4 PL33B (io), R1 PL25A (io), R2 PL28B (io), R3 PL35A/VREF2_6 (io), R4 PL36B (io), T1 PL28A/DQS (io), T2 PL29B/LLM0_PLLC_IN_A (io), T3 PL37A/DQS (io), T4 PL37B (io), U1 PL29A/LLM0_PLLT_IN_A (io), U2 PL30B (io), U3 PL39B (io), U4 PL39A (io), V1 PL30A (io), V2 PL32B (io), V3 PL38B/LLM0_PLLC_FB_A (io), V4 PL38A/LLM0_PLLT_FB_A (io), W1 PL32A (io), W2 PL34B (io), Y1 PL34A (io)
part H pins: D1 PL6B (io), D2 PL6A (io), E1 PL12B (io), E2 PL7A/LUM0_PLLT_FB_A (io), E3 PL7B/LUM0_PLLC_FB_A (io), F1 PL12A (io), F2 PL8B (io), F3 PL8A (io), G1 PL15A (io), G2 PL11B (io), G3 PL11A/DQS (io), H1 PL16B/LUM0_PLLC_IN_A (io), H2 PL15B (io), H3 PL10B/VREF1_7 (io), H4 PL9A (io), J1 PL17A (io), J2 PL16A/LUM0_PLLT_IN_A (io), J3 PL19B (io), J4 PL13A (io), K1 PL20A/DQS (io), K2 PL17B (io), K3 PL18A/VREF2_7 (io), K4 PL13B (io), L1 PL22A (io), L2 PL20B (io), L3 PL21A (io), L4 PL21B (io), M1 PL22B (io)
part I pins: B1 DONE (io), B2 CFG1 (in), C1 CFG0 (in), D18 TCK (in), D19 TMS (in), D20 TDI (in), F4 PROGRAMN (in), F19 TDO (out), G4 CCLK (io), W5 SLEEPN (in), Y2 INITN (io)
part J pins: E20 VCCJ (power), G7 VCCAUX (power), G8 VCCIO0 (power), G9 VCCIO0 (power), G10 VCCIO0 (power), G11 VCCIO0 (power), G12 VCCIO1 (power), G13 VCCIO1 (power), G14 VCCIO1 (power), G15 VCCIO1 (power), G16 VCCAUX (power), H7 VCCIO7 (power), H8 VCCIO0 (power), H9 VCC (power), H15 VCCIO1 (power), H16 VCCIO2 (power), J7 VCCIO7 (power), J8 VCC (power), J15 VCC (power), J16 VCCIO2 (power), K7 VCCIO7 (power), K8 VCC (power), K15 VCC (power), K16 VCCIO2 (power), L7 VCCIO7 (power), L8 VCC (power), L15 VCC (power), L16 VCCIO2 (power), M2 VCCP0 (power), M7 VCCIO6 (power), M8 VCC (power), M15 VCC (power), M16 VCCIO3 (power), M21 VCCP1 (power), N7 VCCIO6 (power), N8 VCC (power), N15 VCC (power), N16 VCCIO3 (power), P7 VCCIO6 (power), P8 VCC (power), P15 VCC (power), P16 VCCIO3 (power), R7 VCCIO6 (power), R8 VCCIO5 (power), R9 VCC (power), R15 VCCIO4 (power), R16 VCCIO3 (power), T7 VCCAUX (power), T8 VCCIO5 (power), T9 VCCIO5 (power), T10 VCCIO5 (power), T11 VCCIO5 (power), T12 VCCIO4 (power), T13 VCCIO4 (power), T14 VCCIO4 (power), T15 VCCIO4 (power), T16 VCCAUX (power)
part K pins: A1 GND (power), A22 GND (power), AB1 GND (power), AB22 GND (power), H10 GND (power), H11 GND (power), H12 GND (power), H13 GND (power), H14 GND (power), J9 GND (power), J10 GND (power), J11 GND (power), J12 GND (power), J13 GND (power), J14 GND (power), K9 GND (power), K10 GND (power), K11 GND (power), K12 GND (power), K13 GND (power), K14 GND (power), L9 GND (power), L10 GND (power), L11 GND (power), L12 GND (power), L13 GND (power), L14 GND (power), M9 GND (power), M10 GND (power), M11 GND (power), M12 GND (power), M13 GND (power), M14 GND (power), N1 GNDP0 (power), N9 GND (power), N10 GND (power), N11 GND (power), N12 GND (power), N13 GND (power), N14 GND (power), N22 GNDP1 (power), P9 GND (power), P10 GND (power), P11 GND (power), P12 GND (power), P13 GND (power), P14 GND (power), R10 GND (power), R11 GND (power), R12 GND (power), R13 GND (power), R14 GND (power)
part A text: BANK 0
part B text: BANK 1
part C text: BANK 2
part D text: BANK 3
part E text: BANK 4
part F text: BANK 5
part G text: BANK 6
part H text: BANK 7

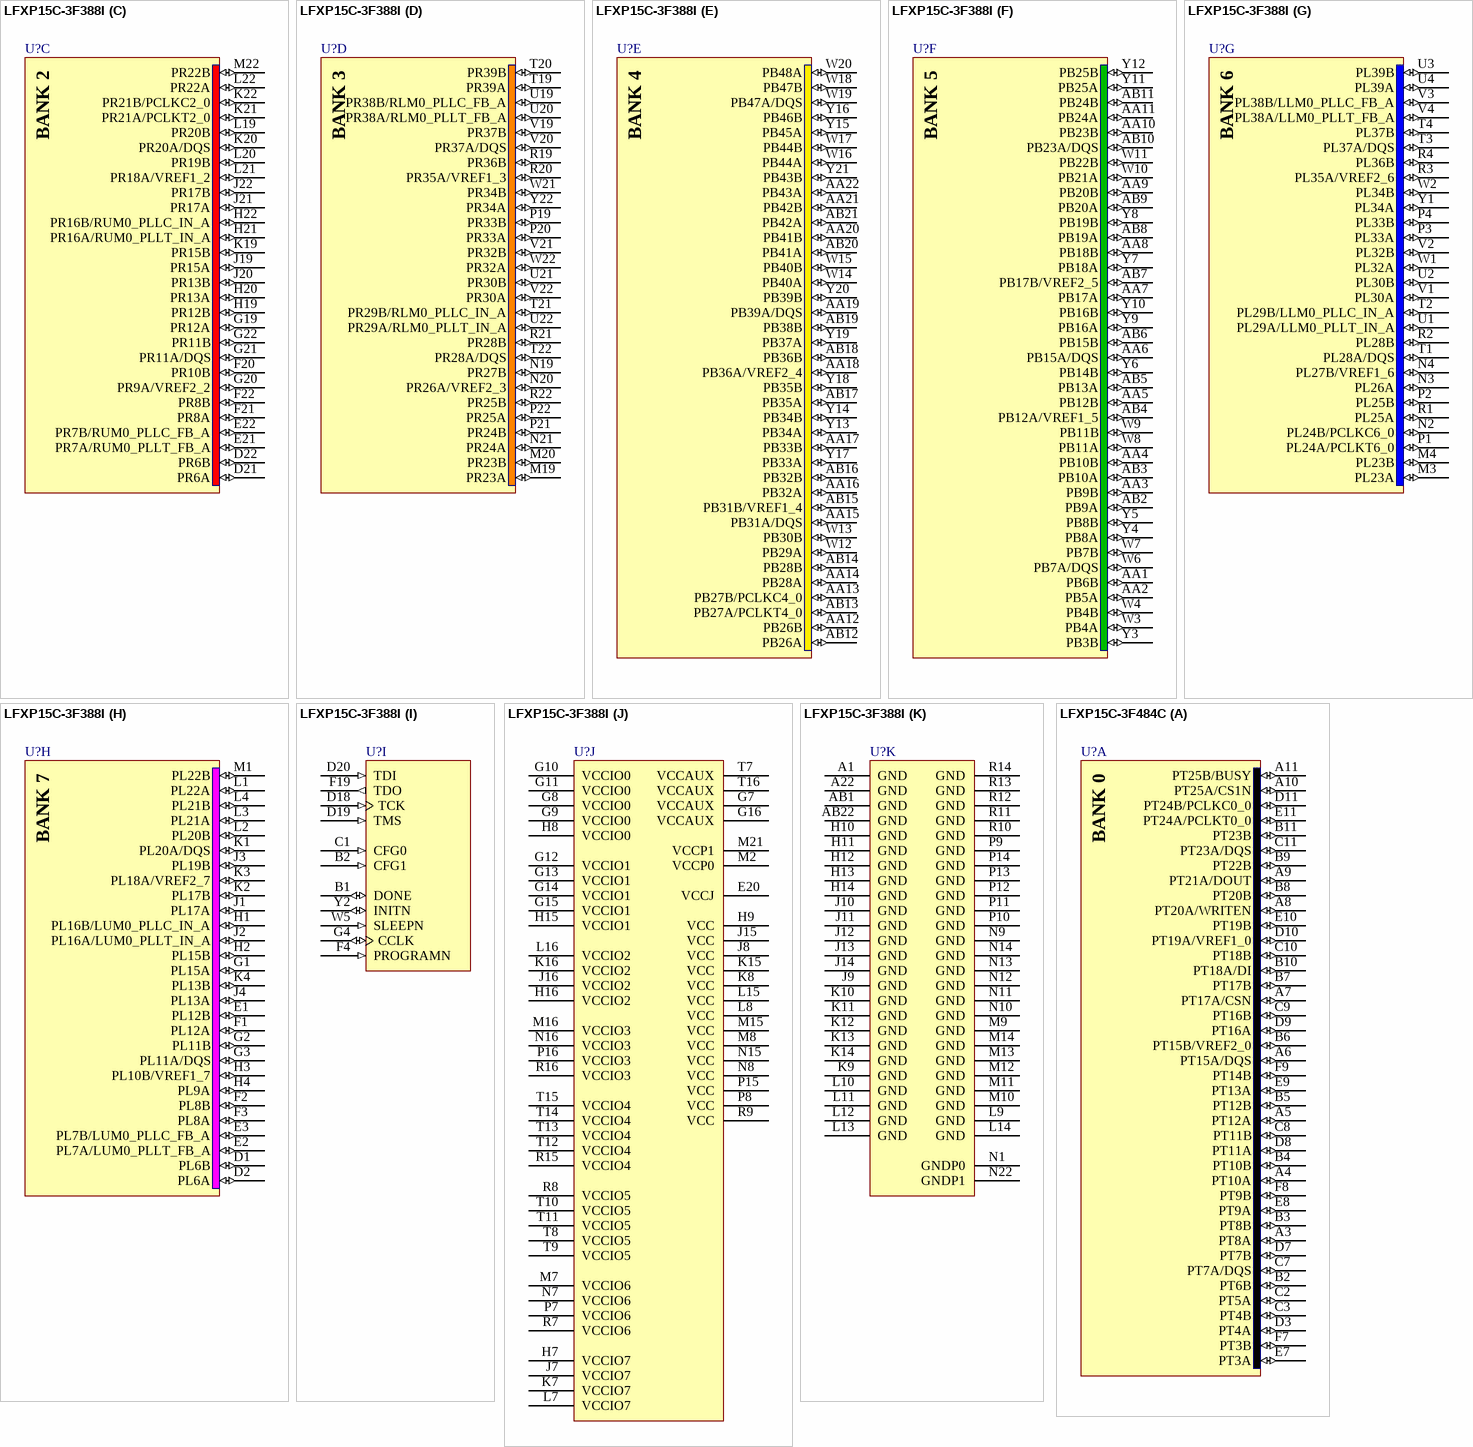
[diagram p115: symbols LFXP15C-3F388I to LFXP15C-3F484C]

## LFXP15C-3F388I
designator U?
XP 1.8/2.5/3.3V FPGA, 268 I/Os, 15K LUTs, 388-Pin fpBGA, Speed Grade 3, Industrial Grade; DatasheetVersion: ver05.1, Nov-2007; PackageVersion: ver01.8, Dec-2008; PackageReference: fpBGA388; PackageDescription: 388-Ball Fine Pitch Ball Grid Array (fpBGA388); ComponentLink1Description: Manufacturer URL; ComponentLink1URL: http://www.latticesemi.com/; ComponentLink2Description: Datasheet; ComponentLink2URL: http://www.latticesemi.com/lit/docs/datasheets/fpga/DS1001.pdf; ComponentLink3Description: Package Specification; ComponentLink3URL: http://www.latticesemi.com/lit/docs/package/pkg.pdf
footprint fpBGA388 (BGA, 388-Leads, Body 23x23mm, Pitch 1mm)
part A pins: A2 PT10A (io), A3 PT9B (io), A4 PT12A (io), A5 PT14B (io), A6 PT15B/VREF2_0 (io), A7 PT18A/DI (io), A8 PT19A/VREF1_0 (io), A9 PT20B (io), A10 PT24A/PCLKT0_0 (io), A11 PT24B/PCLKC0_0 (io), B3 PT9A (io), B4 PT10B (io), B5 PT13A (io), B6 PT15A/DQS (io), B7 PT17B (io), B8 PT19B (io), B9 PT23A/DQS (io), B10 PT23B (io), B11 PT25A/CS1N (io), C2 PT7B (io), C3 PT8A (io), C4 PT8B (io), C5 PT12B (io), C6 PT17A/CSN (io), C7 PT18B (io), C8 PT20A/WRITEN (io), C9 PT16A (io), C10 PT16B (io), C11 PT25B/BUSY (io), D3 PT7A/DQS (io), D4 PT4A (io), D5 PT3B (io), D6 PT5A (io), D7 PT6B (io), D8 PT11A (io), D9 PT11B (io), D10 PT21A/DOUT (io), D11 PT22B (io), E4 PT4B (io)
part B pins: A12 PT27A (io), A13 PT28A/D5 (io), A14 PT31A/DQS (io), A15 PT32A (io), A16 PT33A/D2 (io), A17 PT34A/VREF2_1 (io), A18 PT36A (io), A19 PT37A (io), A20 PT39A/DQS (io), A21 PT41A (io), B12 PT26B/D7 (io), B13 PT27B/D6 (io), B14 PT28B (io), B15 PT31B (io), B16 PT32B/D3 (io), B17 PT33B (io), B18 PT34B/D1 (io), B19 PT36B (io), B20 PT38B (io), B21 PT39B/VREF1_1 (io), B22 PT41B (io), C12 PT26A (io), C13 PT35A/D0 (io), C14 PT35B (io), C15 PT45A (io), C16 PT46B (io), C17 PT44B (io), C18 PT44A (io), C19 PT43B (io), C20 PT43A (io), C21 PT42B (io), C22 PT42A (io), D12 PT29A/D4 (io), D13 PT30B (io), D14 PT40A (io), D15 PT40B (io), D16 PT47A/DQS (io), D17 PT47B (io), E19 PT48A (io)
part C pins: D21 PR6A (io), D22 PR6B (io), E21 PR7A/RUM0_PLLT_FB_A (io), E22 PR7B/RUM0_PLLC_FB_A (io), F20 PR10B (io), F21 PR8A (io), F22 PR8B (io), G19 PR12A (io), G20 PR9A/VREF2_2 (io), G21 PR11A/DQS (io), G22 PR11B (io), H19 PR12B (io), H20 PR13A (io), H21 PR16A/RUM0_PLLT_IN_A (io), H22 PR16B/RUM0_PLLC_IN_A (io), J19 PR15A (io), J20 PR13B (io), J21 PR17A (io), J22 PR17B (io), K19 PR15B (io), K20 PR20A/DQS (io), K21 PR21A/PCLKT2_0 (io), K22 PR21B/PCLKC2_0 (io), L19 PR20B (io), L20 PR19B (io), L21 PR18A/VREF1_2 (io), L22 PR22A (io), M22 PR22B (io)
part D pins: M19 PR23A (io), M20 PR23B (io), N19 PR27B (io), N20 PR26A/VREF2_3 (io), N21 PR24A (io), P19 PR33B (io), P20 PR33A (io), P21 PR24B (io), P22 PR25A (io), R19 PR36B (io), R20 PR35A/VREF1_3 (io), R21 PR28B (io), R22 PR25B (io), T19 PR39A (io), T20 PR39B (io), T21 PR29B/RLM0_PLLC_IN_A (io), T22 PR28A/DQS (io), U19 PR38B/RLM0_PLLC_FB_A (io), U20 PR38A/RLM0_PLLT_FB_A (io), U21 PR30B (io), U22 PR29A/RLM0_PLLT_IN_A (io), V19 PR37B (io), V20 PR37A/DQS (io), V21 PR32B (io), V22 PR30A (io), W21 PR34B (io), W22 PR32A (io), Y22 PR34A (io)
part E pins: AA12 PB26B (io), AA13 PB27B/PCLKC4_0 (io), AA14 PB28A (io), AA15 PB31A/DQS (io), AA16 PB32A (io), AA17 PB33B (io), AA18 PB36A/VREF2_4 (io), AA19 PB39A/DQS (io), AA20 PB41B (io), AA21 PB42B (io), AA22 PB43A (io), AB12 PB26A (io), AB13 PB27A/PCLKT4_0 (io), AB14 PB28B (io), AB15 PB31B/VREF1_4 (io), AB16 PB32B (io), AB17 PB35A (io), AB18 PB36B (io), AB19 PB38B (io), AB20 PB41A (io), AB21 PB42A (io), W12 PB29A (io), W13 PB30B (io), W14 PB40A (io), W15 PB40B (io), W16 PB44A (io), W17 PB44B (io), W18 PB47B (io), W19 PB47A/DQS (io), W20 PB48A (io), Y13 PB34A (io), Y14 PB34B (io), Y15 PB45A (io), Y16 PB46B (io), Y17 PB33A (io), Y18 PB35B (io), Y19 PB37A (io), Y20 PB39B (io), Y21 PB43B (io)
part F pins: AA1 PB6B (io), AA2 PB5A (io), AA3 PB9B (io), AA4 PB10B (io), AA5 PB12B (io), AA6 PB15A/DQS (io), AA7 PB17A (io), AA8 PB18B (io), AA9 PB20B (io), AA10 PB23B (io), AA11 PB24A (io), AB2 PB9A (io), AB3 PB10A (io), AB4 PB12A/VREF1_5 (io), AB5 PB13A (io), AB6 PB15B (io), AB7 PB17B/VREF2_5 (io), AB8 PB19A (io), AB9 PB20A (io), AB10 PB23A/DQS (io), AB11 PB24B (io), W3 PB4A (io), W4 PB4B (io), W6 PB7A/DQS (io), W7 PB7B (io), W8 PB11A (io), W9 PB11B (io), W10 PB21A (io), W11 PB22B (io), Y3 PB3B (io), Y4 PB8A (io), Y5 PB8B (io), Y6 PB14B (io), Y7 PB18A (io), Y8 PB19B (io), Y9 PB16A (io), Y10 PB16B (io), Y11 PB25A (io), Y12 PB25B (io)
part G pins: M3 PL23A (io), M4 PL23B (io), N2 PL24B/PCLKC6_0 (io), N3 PL26A (io), N4 PL27B/VREF1_6 (io), P1 PL24A/PCLKT6_0 (io), P2 PL25B (io), P3 PL33A (io), P4 PL33B (io), R1 PL25A (io), R2 PL28B (io), R3 PL35A/VREF2_6 (io), R4 PL36B (io), T1 PL28A/DQS (io), T2 PL29B/LLM0_PLLC_IN_A (io), T3 PL37A/DQS (io), T4 PL37B (io), U1 PL29A/LLM0_PLLT_IN_A (io), U2 PL30B (io), U3 PL39B (io), U4 PL39A (io), V1 PL30A (io), V2 PL32B (io), V3 PL38B/LLM0_PLLC_FB_A (io), V4 PL38A/LLM0_PLLT_FB_A (io), W1 PL32A (io), W2 PL34B (io), Y1 PL34A (io)
part H pins: D1 PL6B (io), D2 PL6A (io), E1 PL12B (io), E2 PL7A/LUM0_PLLT_FB_A (io), E3 PL7B/LUM0_PLLC_FB_A (io), F1 PL12A (io), F2 PL8B (io), F3 PL8A (io), G1 PL15A (io), G2 PL11B (io), G3 PL11A/DQS (io), H1 PL16B/LUM0_PLLC_IN_A (io), H2 PL15B (io), H3 PL10B/VREF1_7 (io), H4 PL9A (io), J1 PL17A (io), J2 PL16A/LUM0_PLLT_IN_A (io), J3 PL19B (io), J4 PL13A (io), K1 PL20A/DQS (io), K2 PL17B (io), K3 PL18A/VREF2_7 (io), K4 PL13B (io), L1 PL22A (io), L2 PL20B (io), L3 PL21A (io), L4 PL21B (io), M1 PL22B (io)
part I pins: B1 DONE (io), B2 CFG1 (in), C1 CFG0 (in), D18 TCK (in), D19 TMS (in), D20 TDI (in), F4 PROGRAMN (in), F19 TDO (out), G4 CCLK (io), W5 SLEEPN (in), Y2 INITN (io)
part J pins: E20 VCCJ (power), G7 VCCAUX (power), G8 VCCIO0 (power), G9 VCCIO0 (power), G10 VCCIO0 (power), G11 VCCIO0 (power), G12 VCCIO1 (power), G13 VCCIO1 (power), G14 VCCIO1 (power), G15 VCCIO1 (power), G16 VCCAUX (power), H7 VCCIO7 (power), H8 VCCIO0 (power), H9 VCC (power), H15 VCCIO1 (power), H16 VCCIO2 (power), J7 VCCIO7 (power), J8 VCC (power), J15 VCC (power), J16 VCCIO2 (power), K7 VCCIO7 (power), K8 VCC (power), K15 VCC (power), K16 VCCIO2 (power), L7 VCCIO7 (power), L8 VCC (power), L15 VCC (power), L16 VCCIO2 (power), M2 VCCP0 (power), M7 VCCIO6 (power), M8 VCC (power), M15 VCC (power), M16 VCCIO3 (power), M21 VCCP1 (power), N7 VCCIO6 (power), N8 VCC (power), N15 VCC (power), N16 VCCIO3 (power), P7 VCCIO6 (power), P8 VCC (power), P15 VCC (power), P16 VCCIO3 (power), R7 VCCIO6 (power), R8 VCCIO5 (power), R9 VCC (power), R15 VCCIO4 (power), R16 VCCIO3 (power), T7 VCCAUX (power), T8 VCCIO5 (power), T9 VCCIO5 (power), T10 VCCIO5 (power), T11 VCCIO5 (power), T12 VCCIO4 (power), T13 VCCIO4 (power), T14 VCCIO4 (power), T15 VCCIO4 (power), T16 VCCAUX (power)
part K pins: A1 GND (power), A22 GND (power), AB1 GND (power), AB22 GND (power), H10 GND (power), H11 GND (power), H12 GND (power), H13 GND (power), H14 GND (power), J9 GND (power), J10 GND (power), J11 GND (power), J12 GND (power), J13 GND (power), J14 GND (power), K9 GND (power), K10 GND (power), K11 GND (power), K12 GND (power), K13 GND (power), K14 GND (power), L9 GND (power), L10 GND (power), L11 GND (power), L12 GND (power), L13 GND (power), L14 GND (power), M9 GND (power), M10 GND (power), M11 GND (power), M12 GND (power), M13 GND (power), M14 GND (power), N1 GNDP0 (power), N9 GND (power), N10 GND (power), N11 GND (power), N12 GND (power), N13 GND (power), N14 GND (power), N22 GNDP1 (power), P9 GND (power), P10 GND (power), P11 GND (power), P12 GND (power), P13 GND (power), P14 GND (power), R10 GND (power), R11 GND (power), R12 GND (power), R13 GND (power), R14 GND (power)
part A text: BANK 0
part B text: BANK 1
part C text: BANK 2
part D text: BANK 3
part E text: BANK 4
part F text: BANK 5
part G text: BANK 6
part H text: BANK 7

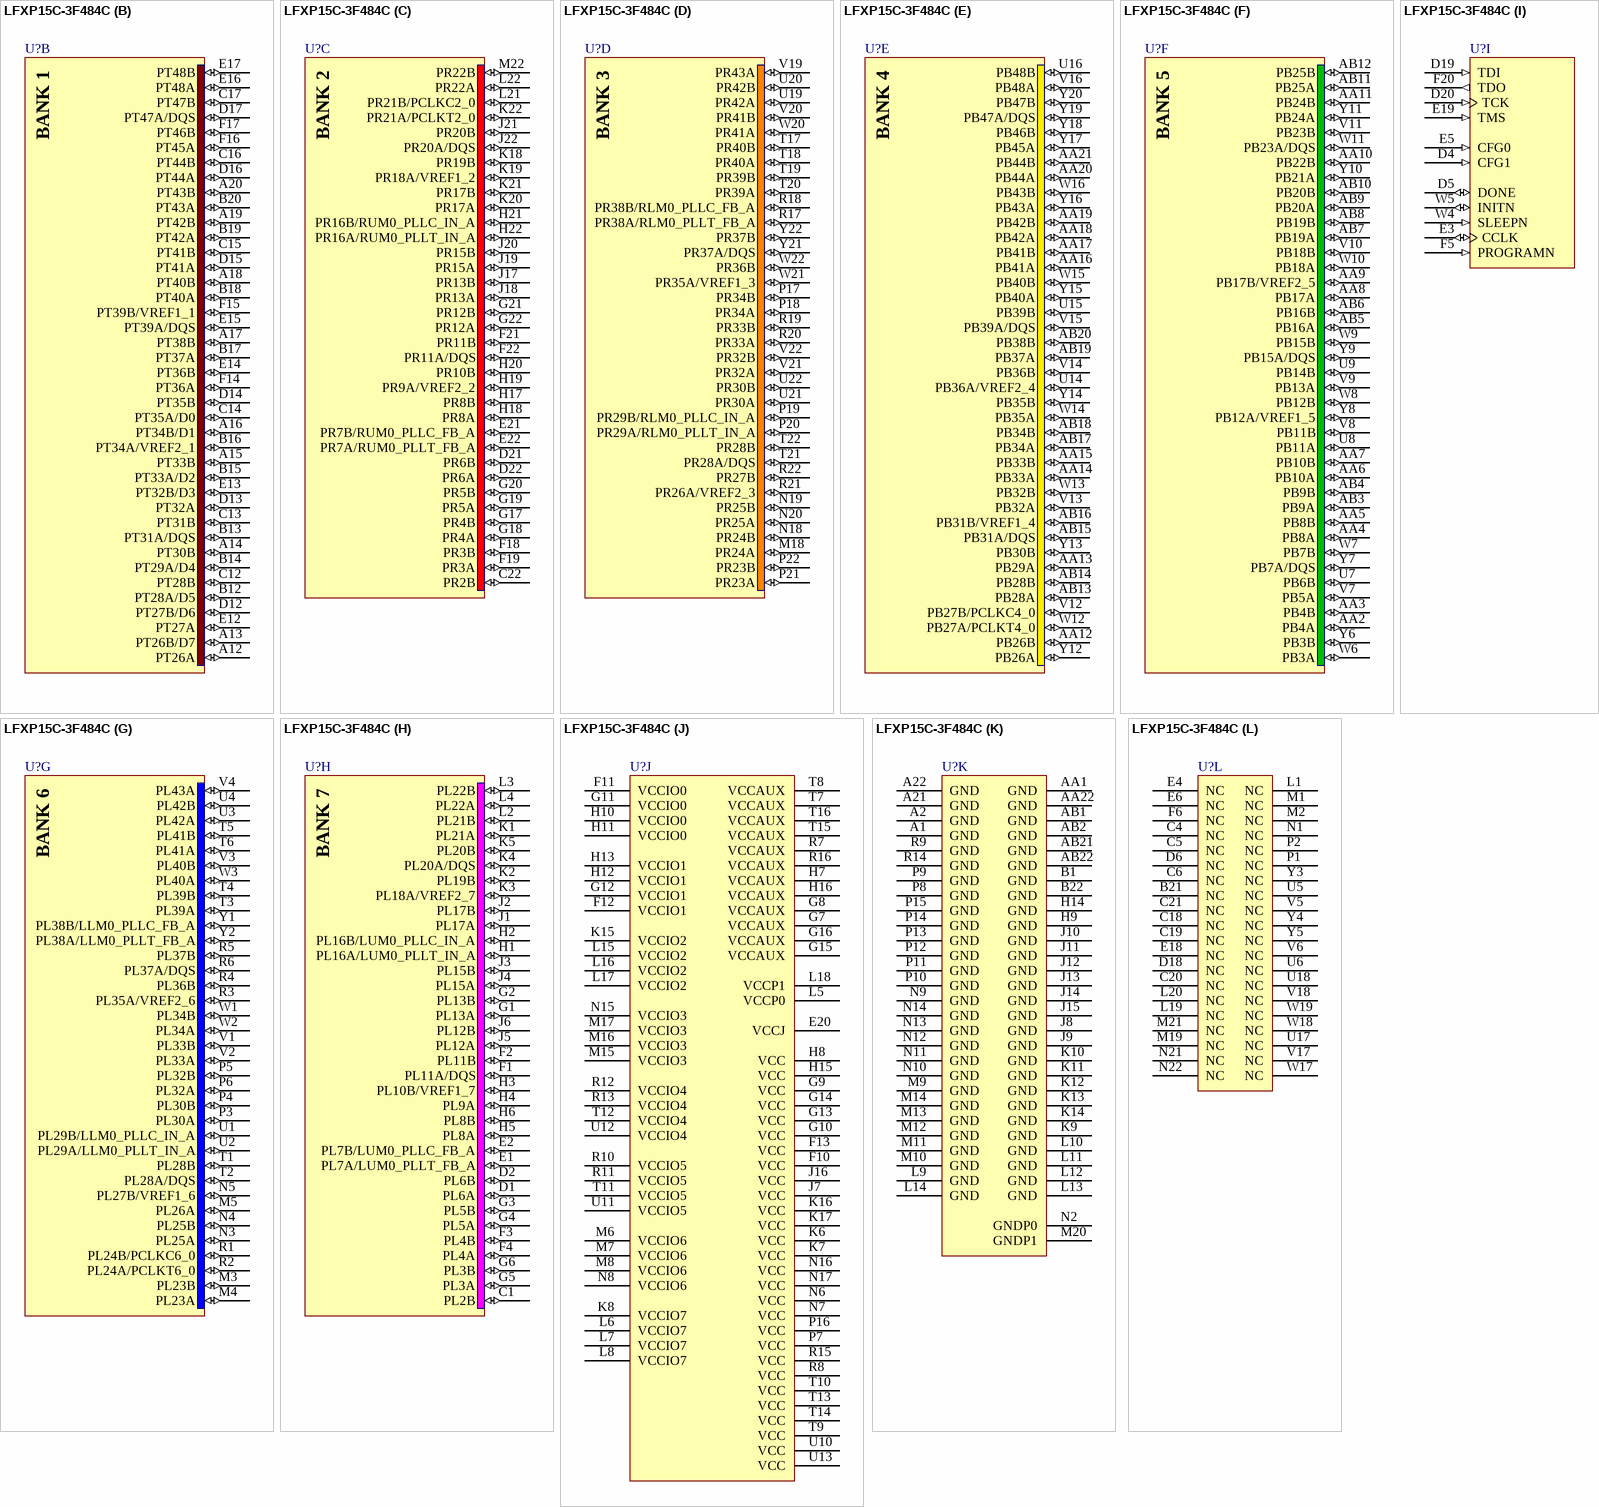
[diagram p116: symbol LFXP15C-3F484C]

## LFXP15C-3F484C
designator U?
XP 1.8/2.5/3.3V FPGA, 300 I/Os, 15K LUTs, 484-Pin fpBGA, Speed Grade 3, Commerical Grade; DatasheetVersion: ver05.1, Nov-2007; PackageVersion: ver02.8, Jul-2011; PackageReference: fpBGA484; PackageDescription: 484-Ball Fine Pitch Ball Grid Array (fpBGA484); Code_IPC: BGA100P22X22-484; ComponentLink1Description: Manufacturer URL; ComponentLink1URL: http://www.latticesemi.com/; ComponentLink2Description: Datasheet; ComponentLink2URL: http://www.latticesemi.com/lit/docs/datasheets/fpga/DS1001.pdf; ComponentLink3Description: Package Specification; ComponentLink3URL: http://www.latticesemi.com/lit/docs/package/pkg.pdf
footprint fpBGA484 (BGA, 484-Leads, Body 23x23mm, Pitch 1mm)
part A pins: A3 PT8A (io), A4 PT10A (io), A5 PT12A (io), A6 PT15A/DQS (io), A7 PT17A/CSN (io), A8 PT20A/WRITEN (io), A9 PT21A/DOUT (io), A10 PT25A/CS1N (io), A11 PT25B/BUSY (io), B2 PT6B (io), B3 PT8B (io), B4 PT10B (io), B5 PT12B (io), B6 PT15B/VREF2_0 (io), B7 PT17B (io), B8 PT20B (io), B9 PT22B (io), B10 PT18A/DI (io), B11 PT23B (io), C2 PT5A (io), C3 PT4B (io), C7 PT7A/DQS (io), C8 PT11B (io), C9 PT16B (io), C10 PT18B (io), C11 PT23A/DQS (io), D3 PT4A (io), D7 PT7B (io), D8 PT11A (io), D9 PT16A (io), D10 PT19A/VREF1_0 (io), D11 PT24B/PCLKC0_0 (io), E7 PT3A (io), E8 PT9A (io), E9 PT13A (io), E10 PT19B (io), E11 PT24A/PCLKT0_0 (io), F7 PT3B (io), F8 PT9B (io), F9 PT14B (io)
part B pins: A12 PT26A (io), A13 PT26B/D7 (io), A14 PT30B (io), A15 PT33B (io), A16 PT34B/D1 (io), A17 PT38B (io), A18 PT40B (io), A19 PT42B (io), A20 PT43B (io), B12 PT28A/D5 (io), B13 PT31A/DQS (io), B14 PT29A/D4 (io), B15 PT33A/D2 (io), B16 PT34A/VREF2_1 (io), B17 PT37A (io), B18 PT40A (io), B19 PT42A (io), B20 PT43A (io), C12 PT28B (io), C13 PT31B (io), C14 PT35A/D0 (io), C15 PT41B (io), C16 PT44B (io), C17 PT47B (io), D12 PT27B/D6 (io), D13 PT32A (io), D14 PT35B (io), D15 PT41A (io), D16 PT44A (io), D17 PT47A/DQS (io), E12 PT27A (io), E13 PT32B/D3 (io), E14 PT36B (io), E15 PT39A/DQS (io), E16 PT48A (io), E17 PT48B (io), F14 PT36A (io), F15 PT39B/VREF1_1 (io), F16 PT45A (io), F17 PT46B (io)
part C pins: C22 PR2B (io), D21 PR6B (io), D22 PR6A (io), E21 PR7B/RUM0_PLLC_FB_A (io), E22 PR7A/RUM0_PLLT_FB_A (io), F18 PR3B (io), F19 PR3A (io), F21 PR11B (io), F22 PR11A/DQS (io), G17 PR4B (io), G18 PR4A (io), G19 PR5A (io), G20 PR5B (io), G21 PR12B (io), G22 PR12A (io), H17 PR8B (io), H18 PR8A (io), H19 PR9A/VREF2_2 (io), H20 PR10B (io), H21 PR16B/RUM0_PLLC_IN_A (io), H22 PR16A/RUM0_PLLT_IN_A (io), J17 PR13B (io), J18 PR13A (io), J19 PR15A (io), J20 PR15B (io), J21 PR20B (io), J22 PR20A/DQS (io), K18 PR19B (io), K19 PR18A/VREF1_2 (io), K20 PR17A (io), K21 PR17B (io), K22 PR21A/PCLKT2_0 (io), L21 PR21B/PCLKC2_0 (io), L22 PR22A (io), M22 PR22B (io)
part D pins: M18 PR24A (io), N18 PR24B (io), N19 PR25B (io), N20 PR25A (io), P17 PR34B (io), P18 PR34A (io), P19 PR29B/RLM0_PLLC_IN_A (io), P20 PR29A/RLM0_PLLT_IN_A (io), P21 PR23A (io), P22 PR23B (io), R17 PR38A/RLM0_PLLT_FB_A (io), R18 PR38B/RLM0_PLLC_FB_A (io), R19 PR33B (io), R20 PR33A (io), R21 PR26A/VREF2_3 (io), R22 PR27B (io), T17 PR40B (io), T18 PR40A (io), T19 PR39B (io), T20 PR39A (io), T21 PR28A/DQS (io), T22 PR28B (io), U19 PR42A (io), U20 PR42B (io), U21 PR30A (io), U22 PR30B (io), V19 PR43A (io), V20 PR41B (io), V21 PR32A (io), V22 PR32B (io), W20 PR41A (io), W21 PR35A/VREF1_3 (io), W22 PR36B (io), Y21 PR37A/DQS (io), Y22 PR37B (io)
part E pins: AA12 PB26B (io), AA13 PB29A (io), AA14 PB33A (io), AA15 PB33B (io), AA16 PB41A (io), AA17 PB41B (io), AA18 PB42A (io), AA19 PB42B (io), AA20 PB44A (io), AA21 PB44B (io), AB13 PB28A (io), AB14 PB28B (io), AB15 PB31A/DQS (io), AB16 PB31B/VREF1_4 (io), AB17 PB34A (io), AB18 PB34B (io), AB19 PB37A (io), AB20 PB38B (io), U14 PB36A/VREF2_4 (io), U15 PB39B (io), U16 PB48B (io), V12 PB27B/PCLKC4_0 (io), V13 PB32A (io), V14 PB36B (io), V15 PB39A/DQS (io), V16 PB48A (io), W12 PB27A/PCLKT4_0 (io), W13 PB32B (io), W14 PB35A (io), W15 PB40B (io), W16 PB43B (io), Y12 PB26A (io), Y13 PB30B (io), Y14 PB35B (io), Y15 PB40A (io), Y16 PB43A (io), Y17 PB45A (io), Y18 PB46B (io), Y19 PB47A/DQS (io), Y20 PB47B (io)
part F pins: AA2 PB4A (io), AA3 PB4B (io), AA4 PB8A (io), AA5 PB8B (io), AA6 PB10A (io), AA7 PB10B (io), AA8 PB17A (io), AA9 PB17B/VREF2_5 (io), AA10 PB22B (io), AA11 PB24B (io), AB3 PB9A (io), AB4 PB9B (io), AB5 PB16A (io), AB6 PB16B (io), AB7 PB19A (io), AB8 PB19B (io), AB9 PB20A (io), AB10 PB20B (io), AB11 PB25A (io), AB12 PB25B (io), U7 PB6B (io), U8 PB11A (io), U9 PB14B (io), V7 PB5A (io), V8 PB11B (io), V9 PB13A (io), V10 PB18B (io), V11 PB23B (io), W6 PB3A (io), W7 PB7B (io), W8 PB12B (io), W9 PB15B (io), W10 PB18A (io), W11 PB23A/DQS (io), Y6 PB3B (io), Y7 PB7A/DQS (io), Y8 PB12A/VREF1_5 (io), Y9 PB15A/DQS (io), Y10 PB21A (io), Y11 PB24A (io)
part G pins: M3 PL23B (io), M4 PL23A (io), M5 PL26A (io), N3 PL25A (io), N4 PL25B (io), N5 PL27B/VREF1_6 (io), P3 PL30A (io), P4 PL30B (io), P5 PL32B (io), P6 PL32A (io), R1 PL24B/PCLKC6_0 (io), R2 PL24A/PCLKT6_0 (io), R3 PL35A/VREF2_6 (io), R4 PL36B (io), R5 PL37B (io), R6 PL37A/DQS (io), T1 PL28B (io), T2 PL28A/DQS (io), T3 PL39A (io), T4 PL39B (io), T5 PL41B (io), T6 PL41A (io), U1 PL29B/LLM0_PLLC_IN_A (io), U2 PL29A/LLM0_PLLT_IN_A (io), U3 PL42A (io), U4 PL42B (io), V1 PL33B (io), V2 PL33A (io), V3 PL40B (io), V4 PL43A (io), W1 PL34B (io), W2 PL34A (io), W3 PL40A (io), Y1 PL38B/LLM0_PLLC_FB_A (io), Y2 PL38A/LLM0_PLLT_FB_A (io)
part H pins: C1 PL2B (io), D1 PL6A (io), D2 PL6B (io), E1 PL7A/LUM0_PLLT_FB_A (io), E2 PL7B/LUM0_PLLC_FB_A (io), F1 PL11A/DQS (io), F2 PL11B (io), F3 PL4B (io), F4 PL4A (io), G1 PL13A (io), G2 PL13B (io), G3 PL5B (io), G4 PL5A (io), G5 PL3A (io), G6 PL3B (io), H1 PL16A/LUM0_PLLT_IN_A (io), H2 PL16B/LUM0_PLLC_IN_A (io), H3 PL10B/VREF1_7 (io), H4 PL9A (io), H5 PL8A (io), H6 PL8B (io), J1 PL17A (io), J2 PL17B (io), J3 PL15B (io), J4 PL15A (io), J5 PL12A (io), J6 PL12B (io), K1 PL21A (io), K2 PL19B (io), K3 PL18A/VREF2_7 (io), K4 PL20A/DQS (io), K5 PL20B (io), L2 PL21B (io), L3 PL22B (io), L4 PL22A (io)
part I pins: D4 CFG1 (in), D5 DONE (io), D19 TDI (in), D20 TCK (in), E3 CCLK (io), E5 CFG0 (in), E19 TMS (in), F5 PROGRAMN (in), F20 TDO (out), W4 SLEEPN (in), W5 INITN (io)
part J pins: E20 VCCJ (power), F10 VCC (power), F11 VCCIO0 (power), F12 VCCIO1 (power), F13 VCC (power), G7 VCCAUX (power), G8 VCCAUX (power), G9 VCC (power), G10 VCC (power), G11 VCCIO0 (power), G12 VCCIO1 (power), G13 VCC (power), G14 VCC (power), G15 VCCAUX (power), G16 VCCAUX (power), H7 VCCAUX (power), H8 VCC (power), H10 VCCIO0 (power), H11 VCCIO0 (power), H12 VCCIO1 (power), H13 VCCIO1 (power), H15 VCC (power), H16 VCCAUX (power), J7 VCC (power), J16 VCC (power), K6 VCC (power), K7 VCC (power), K8 VCCIO7 (power), K15 VCCIO2 (power), K16 VCC (power), K17 VCC (power), L5 VCCP0 (power), L6 VCCIO7 (power), L7 VCCIO7 (power), L8 VCCIO7 (power), L15 VCCIO2 (power), L16 VCCIO2 (power), L17 VCCIO2 (power), L18 VCCP1 (power), M6 VCCIO6 (power), M7 VCCIO6 (power), M8 VCCIO6 (power), M15 VCCIO3 (power), M16 VCCIO3 (power), M17 VCCIO3 (power), N6 VCC (power), N7 VCC (power), N8 VCCIO6 (power), N15 VCCIO3 (power), N16 VCC (power), N17 VCC (power), P7 VCC (power), P16 VCC (power), R7 VCCAUX (power), R8 VCC (power), R10 VCCIO5 (power), R11 VCCIO5 (power), R12 VCCIO4 (power), R13 VCCIO4 (power), R15 VCC (power), R16 VCCAUX (power), T7 VCCAUX (power), T8 VCCAUX (power), T9 VCC (power), T10 VCC (power), T11 VCCIO5 (power), T12 VCCIO4 (power), T13 VCC (power), T14 VCC (power), T15 VCCAUX (power), T16 VCCAUX (power), U10 VCC (power), U11 VCCIO5 (power), U12 VCCIO4 (power), U13 VCC (power)
part K pins: A1 GND (power), A2 GND (power), A21 GND (power), A22 GND (power), AA1 GND (power), AA22 GND (power), AB1 GND (power), AB2 GND (power), AB21 GND (power), AB22 GND (power), B1 GND (power), B22 GND (power), H9 GND (power), H14 GND (power), J8 GND (power), J9 GND (power), J10 GND (power), J11 GND (power), J12 GND (power), J13 GND (power), J14 GND (power), J15 GND (power), K9 GND (power), K10 GND (power), K11 GND (power), K12 GND (power), K13 GND (power), K14 GND (power), L9 GND (power), L10 GND (power), L11 GND (power), L12 GND (power), L13 GND (power), L14 GND (power), M9 GND (power), M10 GND (power), M11 GND (power), M12 GND (power), M13 GND (power), M14 GND (power), M20 GNDP1 (power), N2 GNDP0 (power), N9 GND (power), N10 GND (power), N11 GND (power), N12 GND (power), N13 GND (power), N14 GND (power), P8 GND (power), P9 GND (power), P10 GND (power), P11 GND (power), P12 GND (power), P13 GND (power), P14 GND (power), P15 GND (power), R9 GND (power), R14 GND (power)
part L pins: B21 NC, C4 NC, C5 NC, C6 NC, C18 NC, C19 NC, C20 NC, C21 NC, D6 NC, D18 NC, E4 NC, E6 NC, E18 NC, F6 NC, L1 NC, L19 NC, L20 NC, M1 NC, M2 NC, M19 NC, M21 NC, N1 NC, N21 NC, N22 NC, P1 NC, P2 NC, U5 NC, U6 NC, U17 NC, U18 NC, V5 NC, V6 NC, V17 NC, V18 NC, W17 NC, W18 NC, W19 NC, Y3 NC, Y4 NC, Y5 NC
part A text: BANK 0
part B text: BANK 1
part C text: BANK 2
part D text: BANK 3
part E text: BANK 4
part F text: BANK 5
part G text: BANK 6
part H text: BANK 7

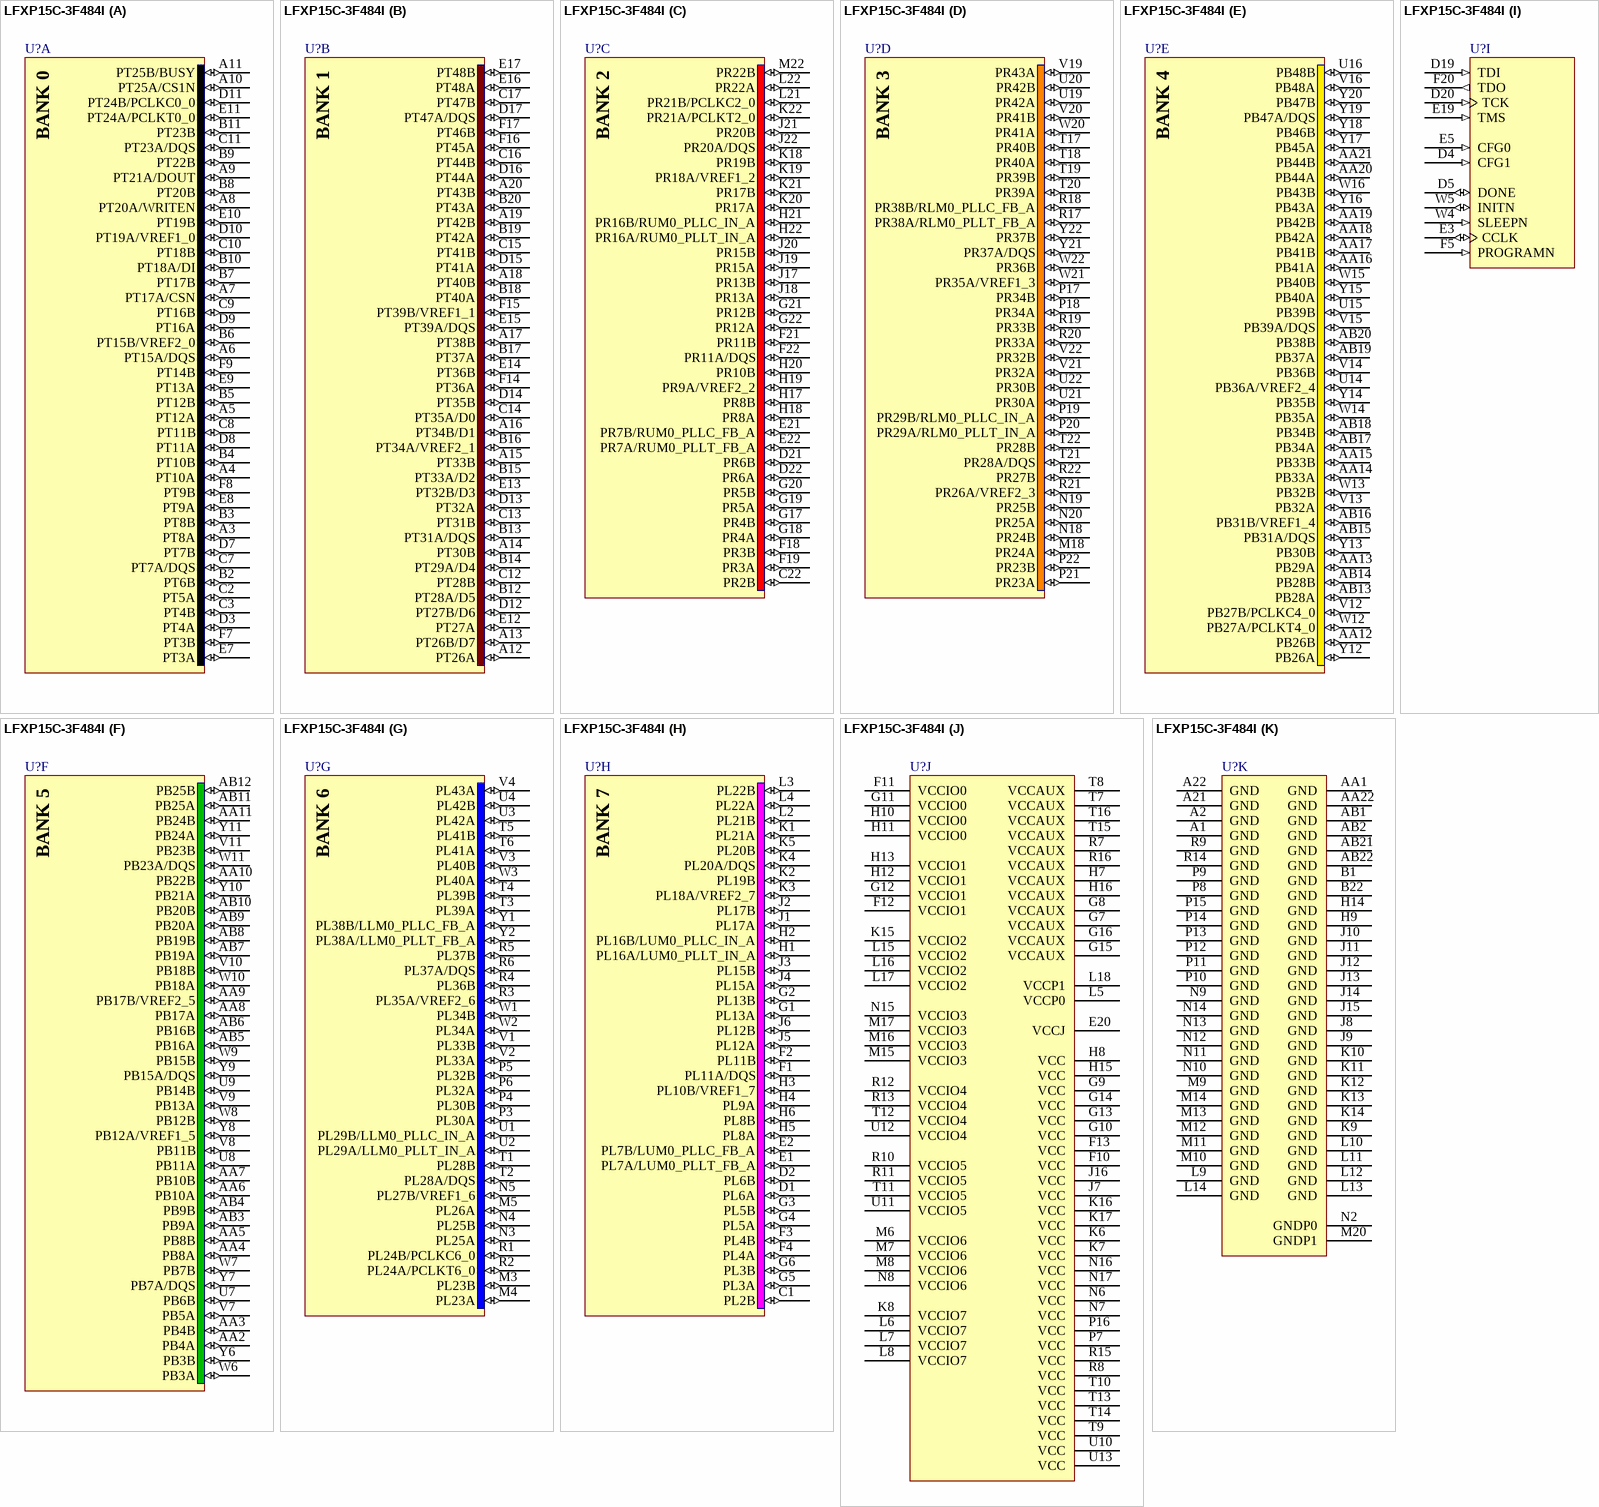
[diagram p117: symbol LFXP15C-3F484I]

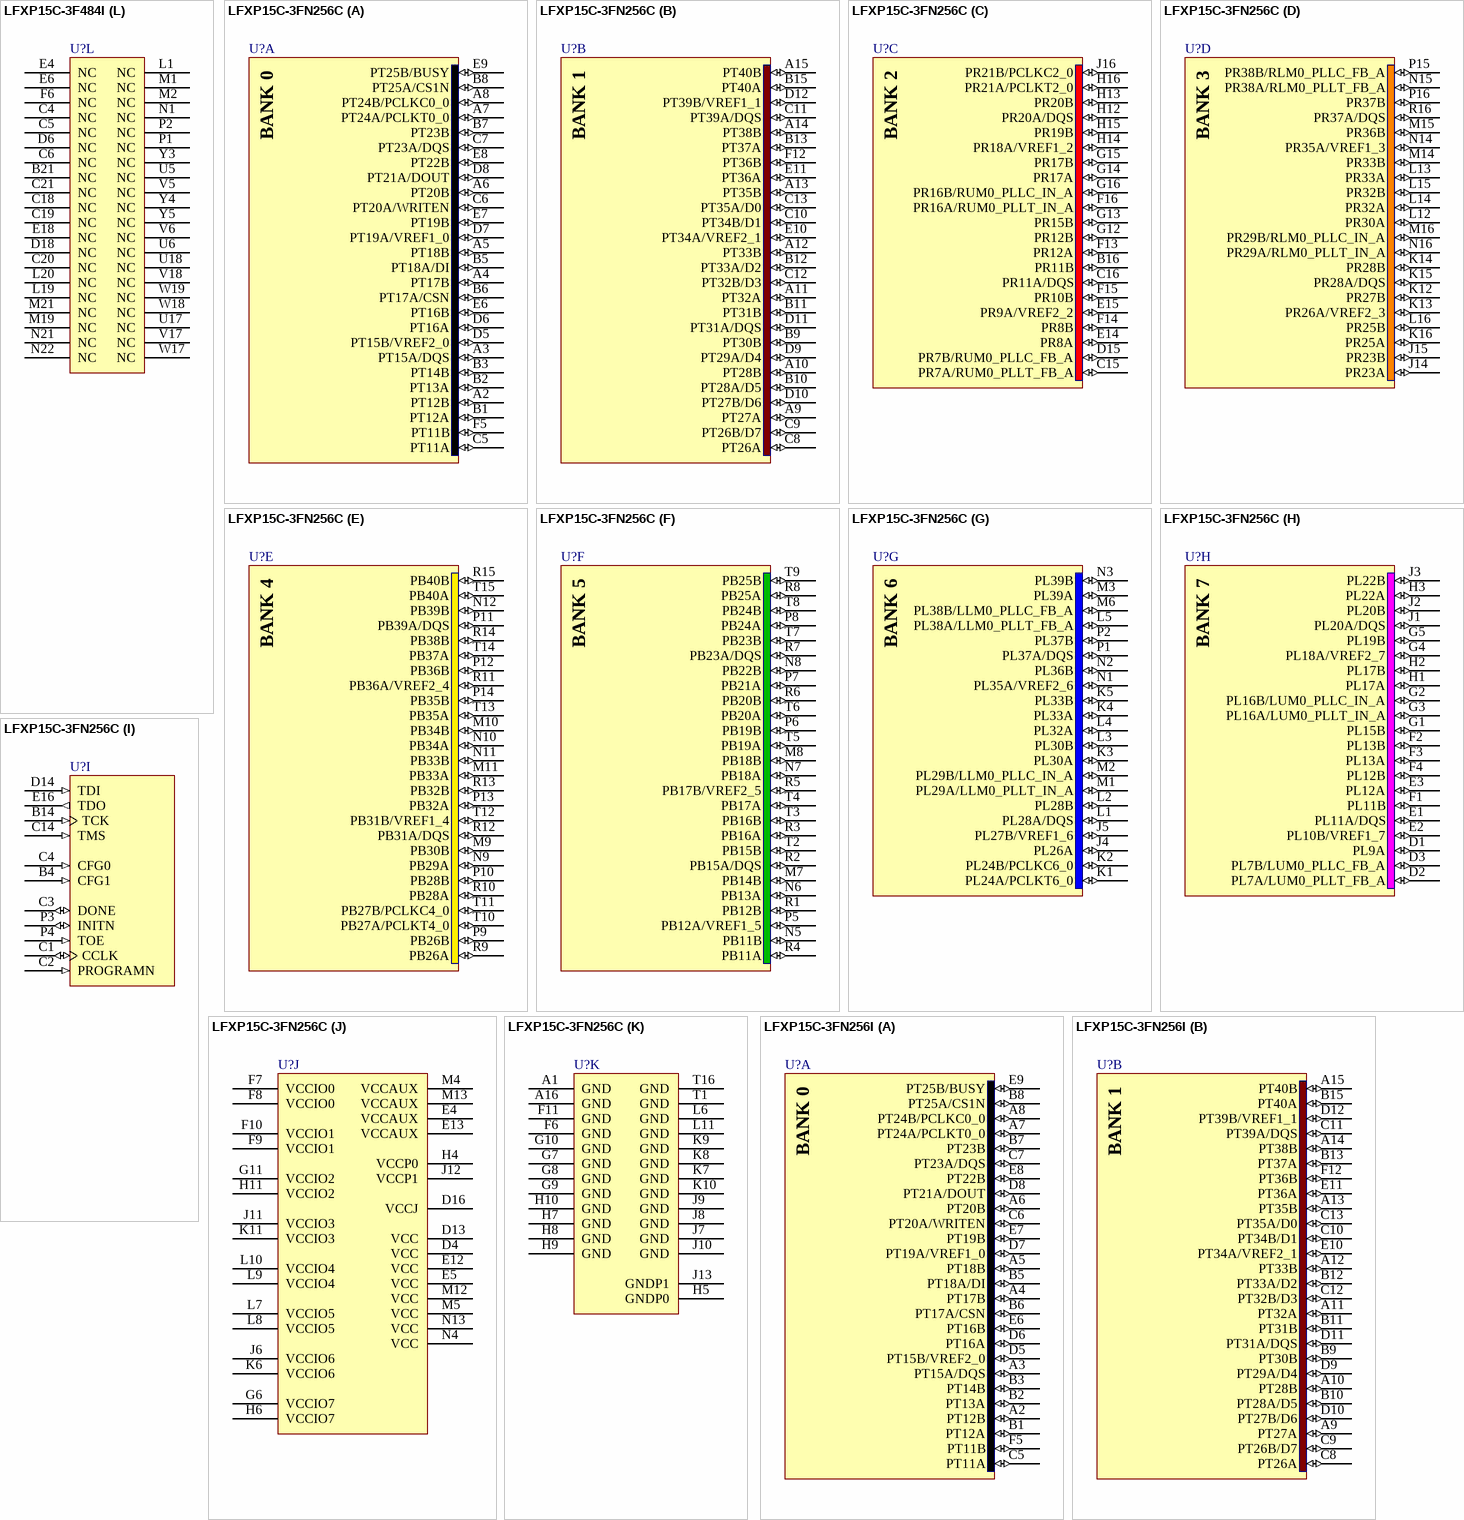
[diagram p118: symbols LFXP15C-3F484I to LFXP15C-3FN256I]